# Altium schematic symbol library OpAmp比较器.SchLib: 515 symbols (part 2 of 4)
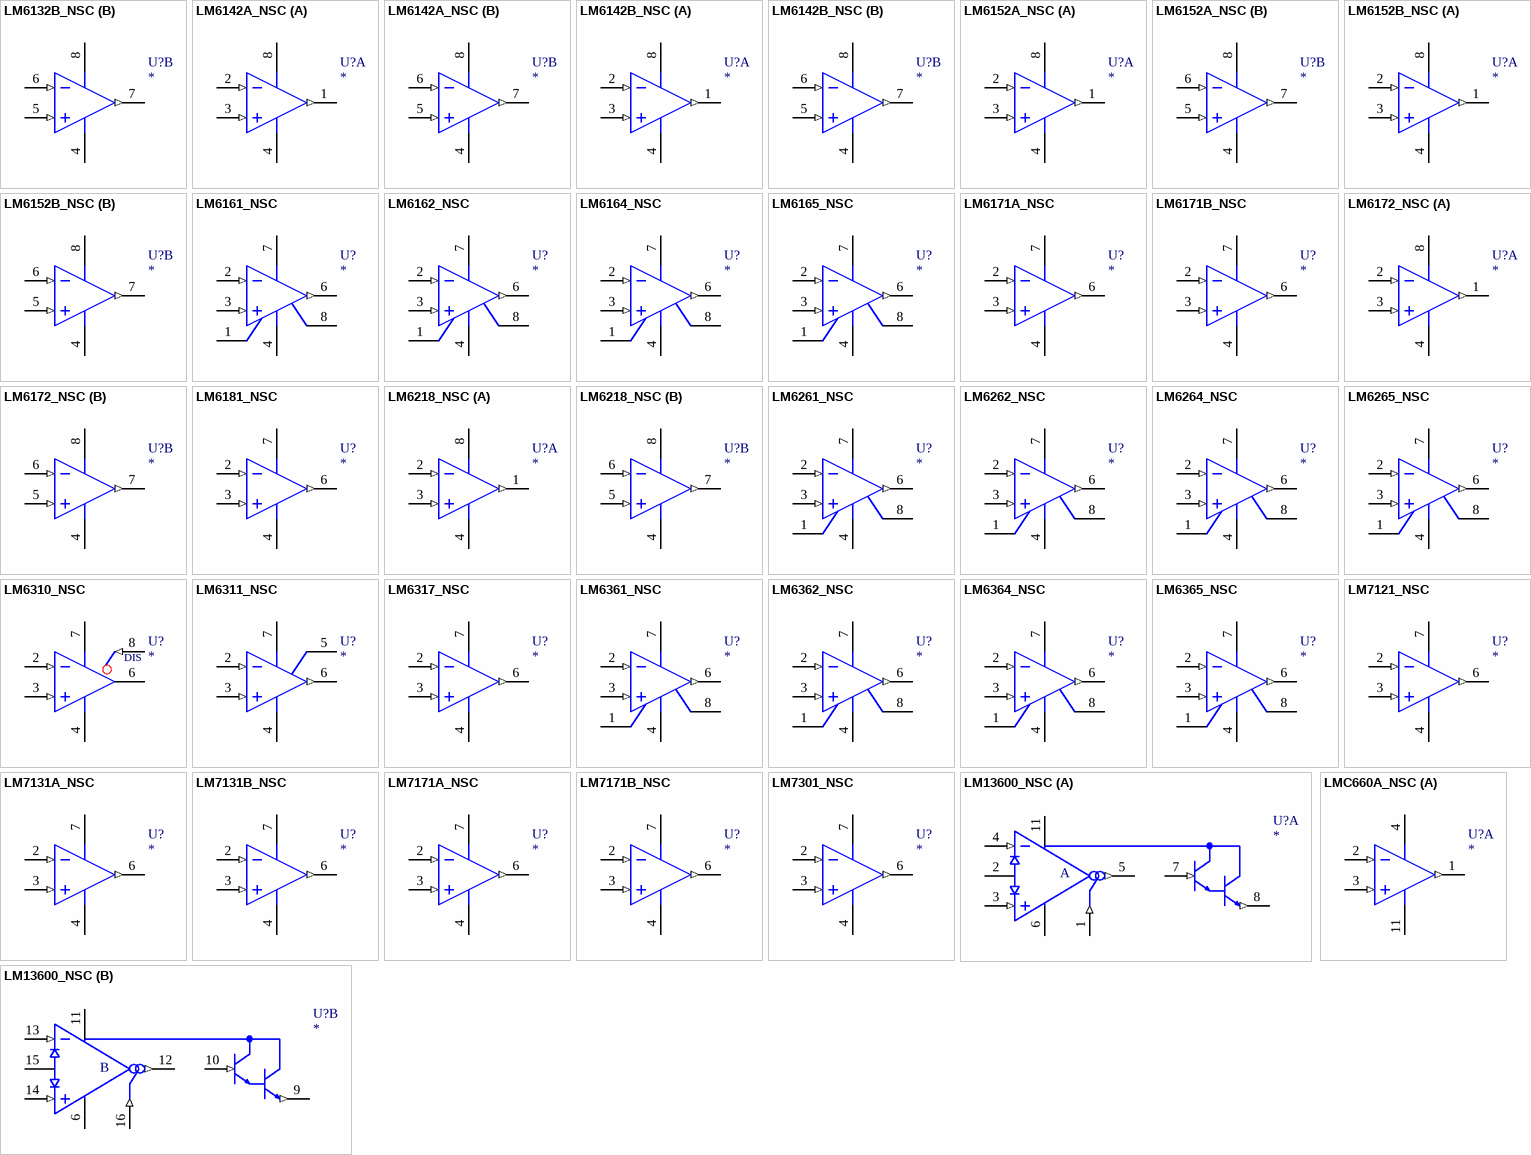
[diagram p24: symbols LM6132B_NSC to LMC660A_NSC]

## LM6142B_NSC
designator U?
Fast Settling Dual Operational Amplifier; 封装库来自淘宝卖家ID：黄晶宝石: 唯一出售店铺网址https://shop463601444.taobao.com
footprint DIP-8
simulation model LM6142B_NSC (SUBCKT)
part A pins: 1 OUT1 (out), 2 IN1- (in), 3 IN1+ (in), 4 V- (power), 8 V+ (power)
part B pins: 4 V- (power), 5 IN2+ (in), 6 IN2- (in), 7 OUT2 (out), 8 V+ (power)

## LM6152A_NSC
designator U?
High Speed/Low Power 17 MHz Rail-to-Rail, Input-Output Operational Amplifier; 封装库来自淘宝卖家ID：黄晶宝石: 唯一出售店铺网址https://shop463601444.taobao.com
footprint DIP-8
simulation model LM6152A_NSC (SUBCKT)
part A pins: 1 OUTA (out), 2 IN-A (in), 3 IN+A (in), 4 V- (power), 8 V+ (power)
part B pins: 4 V- (power), 5 IN+B (in), 6 IN-B (in), 7 OUTB (out), 8 V+ (power)

## LM6152B_NSC
designator U?
High Speed/Low Power 17 MHz Rail-to-Rail, Input-Output Operational Amplifier; 封装库来自淘宝卖家ID：黄晶宝石: 唯一出售店铺网址https://shop463601444.taobao.com
footprint DIP-8
simulation model LM6152B_NSC (SUBCKT)
part A pins: 1 OUTA (out), 2 IN-A (in), 3 IN+A (in), 4 V- (power), 8 V+ (power)
part B pins: 4 V- (power), 5 IN+B (in), 6 IN-B (in), 7 OUTB (out), 8 V+ (power)

## LM6161_NSC
designator U?
High Speed Operational Amplifier; Text Field6: Pin 5 is N.C.; 封装库来自淘宝卖家ID：黄晶宝石: 唯一出售店铺网址https://shop463601444.taobao.com
footprint DIP-8
simulation model LM6161_NSC (SUBCKT)
pins: 1 NULL IN, 2 IN- (in), 3 IN+ (in), 4 VS- (power), 6 OUT (out), 7 VS+ (power), 8 NULL IN

## LM6162_NSC
designator U?
High Speed Operational Amplifier; Text Field6: Pin 5 is N.C.; 封装库来自淘宝卖家ID：黄晶宝石: 唯一出售店铺网址https://shop463601444.taobao.com
footprint DIP-8
simulation model LM6162_NSC (SUBCKT)
pins: 1 VOS TRIM, 2 IN- (in), 3 IN+ (in), 4 VS- (power), 6 OUT (out), 7 VS+ (power), 8 VOS TRIM

## LM6164_NSC
designator U?
High Speed Operational Amplifier; Text Field6: Pin 5 is N.C.; 封装库来自淘宝卖家ID：黄晶宝石: 唯一出售店铺网址https://shop463601444.taobao.com
footprint DIP-8
simulation model LM6164_NSC (SUBCKT)
pins: 1 BAL, 2 IN- (in), 3 IN+ (in), 4 VS- (power), 6 OUT (out), 7 VS+ (power), 8 BAL

## LM6165_NSC
designator U?
High Speed Operational Amplifier; Text Field6: Pin 5 is N.C.; 封装库来自淘宝卖家ID：黄晶宝石: 唯一出售店铺网址https://shop463601444.taobao.com
footprint DIP-8
simulation model LM6165_NSC (SUBCKT)
pins: 1 VOS ADJ, 2 IN- (in), 3 IN+ (in), 4 V- (power), 6 VOUT (out), 7 V+ (power), 8 VOS ADJ

## LM6171A_NSC
designator U?
Precision CMOS Single Micropower Operational Amplifier; Text Field6: Pins 1, 5 and 8 are N.C.; 封装库来自淘宝卖家ID：黄晶宝石: 唯一出售店铺网址https://shop463601444.taobao.com
footprint DIP-8
simulation model LM6171A_NSC (SUBCKT)
pins: 2 IN- (in), 3 IN+ (in), 4 -VS (power), 6 OUT (out), 7 +VS (power)

## LM6171B_NSC
designator U?
Precision CMOS Single Micropower Operational Amplifier; Text Field6: Pins 1, 5 and 8 are N.C.; 封装库来自淘宝卖家ID：黄晶宝石: 唯一出售店铺网址https://shop463601444.taobao.com
footprint DIP-8
simulation model LM6171B_NSC (SUBCKT)
pins: 2 IN- (in), 3 IN+ (in), 4 -VS (power), 6 OUT (out), 7 +VS (power)

## LM6172_NSC
designator U?
High Speed/Low Power 17 MHz Rail-to-Rail, Input-Output Operational Amplifier; 封装库来自淘宝卖家ID：黄晶宝石: 唯一出售店铺网址https://shop463601444.taobao.com
footprint DIP-8
simulation model LM6172_NSC (SUBCKT)
part A pins: 1 OUTA (out), 2 IN-A (in), 3 IN+A (in), 4 V- (power), 8 V+ (power)
part B pins: 4 V- (power), 5 IN+B (in), 6 IN-B (in), 7 OUTB (out), 8 V+ (power)

## LM6181_NSC
designator U?
Operational Amplifier; Text Field6: Pins 1, 5 and 8 are N.C.; 封装库来自淘宝卖家ID：黄晶宝石: 唯一出售店铺网址https://shop463601444.taobao.com
footprint DIP-8
simulation model LM6181_NSC (SUBCKT)
pins: 2 IN- (in), 3 IN+ (in), 4 V- (power), 6 OUT (out), 7 V+ (power)

## LM6218_NSC
designator U?
Fast Settling Dual Operational Amplifier; 封装库来自淘宝卖家ID：黄晶宝石: 唯一出售店铺网址https://shop463601444.taobao.com
footprint DIP-8
simulation model LM6218_NSC (SUBCKT)
part A pins: 1 OUT1 (out), 2 IN1- (in), 3 IN1+ (in), 4 V- (power), 8 V+ (power)
part B pins: 4 V- (power), 5 IN2+ (in), 6 IN2- (in), 7 OUT2 (out), 8 V+ (power)

## LM6261_NSC
designator U?
High Speed Operational Amplifier; Text Field6: Pin 5 is N.C.; 封装库来自淘宝卖家ID：黄晶宝石: 唯一出售店铺网址https://shop463601444.taobao.com
footprint DIP-8
simulation model LM6261_NSC (SUBCKT)
pins: 1 NULL IN, 2 IN- (in), 3 IN+ (in), 4 VS- (power), 6 OUT (out), 7 VS+ (power), 8 NULL IN

## LM6262_NSC
designator U?
High Speed Operational Amplifier; Text Field6: Pin 5 is N.C.; 封装库来自淘宝卖家ID：黄晶宝石: 唯一出售店铺网址https://shop463601444.taobao.com
footprint DIP-8
simulation model LM6262_NSC (SUBCKT)
pins: 1 VOS TRIM, 2 IN- (in), 3 IN+ (in), 4 VS- (power), 6 OUT (out), 7 VS+ (power), 8 VOS TRIM

## LM6264_NSC
designator U?
High Speed Operational Amplifier; Text Field6: Pin 5 is N.C.; 封装库来自淘宝卖家ID：黄晶宝石: 唯一出售店铺网址https://shop463601444.taobao.com
footprint DIP-8
simulation model LM6264_NSC (SUBCKT)
pins: 1 BAL, 2 IN- (in), 3 IN+ (in), 4 VS- (power), 6 OUT (out), 7 VS+ (power), 8 BAL

## LM6265_NSC
designator U?
High Speed Operational Amplifier; Text Field6: Pin 5 is N.C.; 封装库来自淘宝卖家ID：黄晶宝石: 唯一出售店铺网址https://shop463601444.taobao.com
footprint DIP-8
simulation model LM6265_NSC (SUBCKT)
pins: 1 VOS ADJ, 2 IN- (in), 3 IN+ (in), 4 V- (power), 6 VOUT (out), 7 V+ (power), 8 VOS ADJ

## LM6310_NSC
designator U?
High Speed Low Power Operational Amplifier with TRI-STATE Output; Text Field6: Pins 1 and 5 are N.C.; 封装库来自淘宝卖家ID：黄晶宝石: 唯一出售店铺网址https://shop463601444.taobao.com
footprint DIP-8
simulation model LM6310_NSC (SUBCKT)
pins: 2 IN- (in), 3 IN+ (in), 4 VCC- (power), 6 OUT (hiz), 7 VCC+ (power), 8 DISABLE (in)
text: DIS

## LM6311_NSC
designator U?
Low Noise, High Speed, Voltage Feedback Operational Amplifier; Text Field6: Pins 1 and 8 are N.C.; 封装库来自淘宝卖家ID：黄晶宝石: 唯一出售店铺网址https://shop463601444.taobao.com
footprint DIP-8
simulation model LM6311_NSC (SUBCKT)
pins: 2 IN- (in), 3 IN+ (in), 4 V- (power), 5 COMP, 6 OUT (out), 7 V+ (power)

## LM6317_NSC
designator U?
Tiny High Speed Single Supply Operational Amplifier; Text Field6: Pins 1, 5 and 8 are N.C.; 封装库来自淘宝卖家ID：黄晶宝石: 唯一出售店铺网址https://shop463601444.taobao.com
footprint DIP-8
simulation model LM6317_NSC (SUBCKT)
pins: 2 IN- (in), 3 IN+ (in), 4 VCC- (power), 6 OUT (out), 7 VCC+ (power)

## LM6361_NSC
designator U?
High Speed Operational Amplifier; Text Field6: Pin 5 is N.C.; 封装库来自淘宝卖家ID：黄晶宝石: 唯一出售店铺网址https://shop463601444.taobao.com
footprint DIP-8
simulation model LM6361_NSC (SUBCKT)
pins: 1 NULL IN, 2 IN- (in), 3 IN+ (in), 4 VS- (power), 6 OUT (out), 7 VS+ (power), 8 NULL IN

## LM6362_NSC
designator U?
High Speed Operational Amplifier; Text Field6: Pin 5 is N.C.; 封装库来自淘宝卖家ID：黄晶宝石: 唯一出售店铺网址https://shop463601444.taobao.com
footprint DIP-8
simulation model LM6362_NSC (SUBCKT)
pins: 1 VOS TRIM, 2 IN- (in), 3 IN+ (in), 4 VS- (power), 6 OUT (out), 7 VS+ (power), 8 VOS TRIM

## LM6364_NSC
designator U?
High Speed Operational Amplifier; Text Field6: Pin 5 is N.C.; 封装库来自淘宝卖家ID：黄晶宝石: 唯一出售店铺网址https://shop463601444.taobao.com
footprint DIP-8
simulation model LM6364_NSC (SUBCKT)
pins: 1 BAL, 2 IN- (in), 3 IN+ (in), 4 VS- (power), 6 OUT (out), 7 VS+ (power), 8 BAL

## LM6365_NSC
designator U?
High Speed Operational Amplifier; Text Field6: Pin 5 is N.C.; 封装库来自淘宝卖家ID：黄晶宝石: 唯一出售店铺网址https://shop463601444.taobao.com
footprint DIP-8
simulation model LM6365_NSC (SUBCKT)
pins: 1 VOS ADJ, 2 IN- (in), 3 IN+ (in), 4 V- (power), 6 VOUT (out), 7 V+ (power), 8 VOS ADJ

## LM7121_NSC
designator U?
Tiny High Speed Single Supply Operational Amplifier; Text Field6: Pins 1, 5 and 8 are N.C.; 封装库来自淘宝卖家ID：黄晶宝石: 唯一出售店铺网址https://shop463601444.taobao.com
footprint DIP-8
simulation model LM7121_NSC (SUBCKT)
pins: 2 IN- (in), 3 IN+ (in), 4 VCC- (power), 6 OUT (out), 7 VCC+ (power)

## LM7131A_NSC
designator U?
Tiny High Speed Single Supply Operational Amplifier; Text Field6: Pins 1, 5 and 8 are N.C.; 封装库来自淘宝卖家ID：黄晶宝石: 唯一出售店铺网址https://shop463601444.taobao.com
footprint DIP-8
simulation model LM7131A_NSC (SUBCKT)
pins: 2 IN- (in), 3 IN+ (in), 4 VCC- (power), 6 OUT (out), 7 VCC+ (power)

## LM7131B_NSC
designator U?
Tiny High Speed Single Supply Operational Amplifier; Text Field6: Pins 1, 5 and 8 are N.C.; 封装库来自淘宝卖家ID：黄晶宝石: 唯一出售店铺网址https://shop463601444.taobao.com
footprint DIP-8
simulation model LM7131B_NSC (SUBCKT)
pins: 2 IN- (in), 3 IN+ (in), 4 VCC- (power), 6 OUT (out), 7 VCC+ (power)

## LM7171A_NSC
designator U?
Precision CMOS Single Micropower Operational Amplifier; Text Field6: Pins 1, 5 and 8 are N.C.; 封装库来自淘宝卖家ID：黄晶宝石: 唯一出售店铺网址https://shop463601444.taobao.com
footprint DIP-8
simulation model LM7171A_NSC (SUBCKT)
pins: 2 IN- (in), 3 IN+ (in), 4 -VS (power), 6 OUT (out), 7 +VS (power)

## LM7171B_NSC
designator U?
Precision CMOS Single Micropower Operational Amplifier; Text Field6: Pins 1, 5 and 8 are N.C.; 封装库来自淘宝卖家ID：黄晶宝石: 唯一出售店铺网址https://shop463601444.taobao.com
footprint DIP-8
simulation model LM7171B_NSC (SUBCKT)
pins: 2 IN- (in), 3 IN+ (in), 4 -VS (power), 6 OUT (out), 7 +VS (power)

## LM7301_NSC
designator U?
Low Power, 4 MHz GBW, Rail-to-Rail Input-Output Operational Amplifier; Text Field6: Pins 1, 5 and 8 are not connected; 封装库来自淘宝卖家ID：黄晶宝石: 唯一出售店铺网址https://shop463601444.taobao.com
simulation model LM7301_NSC (SUBCKT)
pins: 2 IN- (in), 3 IN+ (in), 4 VEE (power), 6 OUT (out), 7 VCC (power)

## LM13600_NSC
designator U?
Dual Operational Transconductance Amplifier with Linearizing Diodes and Buffers; 封装库来自淘宝卖家ID：黄晶宝石: 唯一出售店铺网址https://shop463601444.taobao.com
footprint DIP-16
simulation model LM13600_NSC (SUBCKT)
part A pins: 1 BIAS INA (in), 2 DIOD BIASA, 3 IN+A (in), 4 IN-A (in), 5 OUTA (out), 6 V- (power), 7 BUFF INA (in), 8 BUFF OUTA (out), 11 V+ (power)
part B pins: 6 V- (power), 9 BUFF OUTB (out), 10 BUFF INB (in), 11 V+ (power), 12 OUTB (out), 13 IN-B (in), 14 IN+B (in), 15 DIOD BIASB, 16 BIAS INB (in)
part A text: A
part B text: B

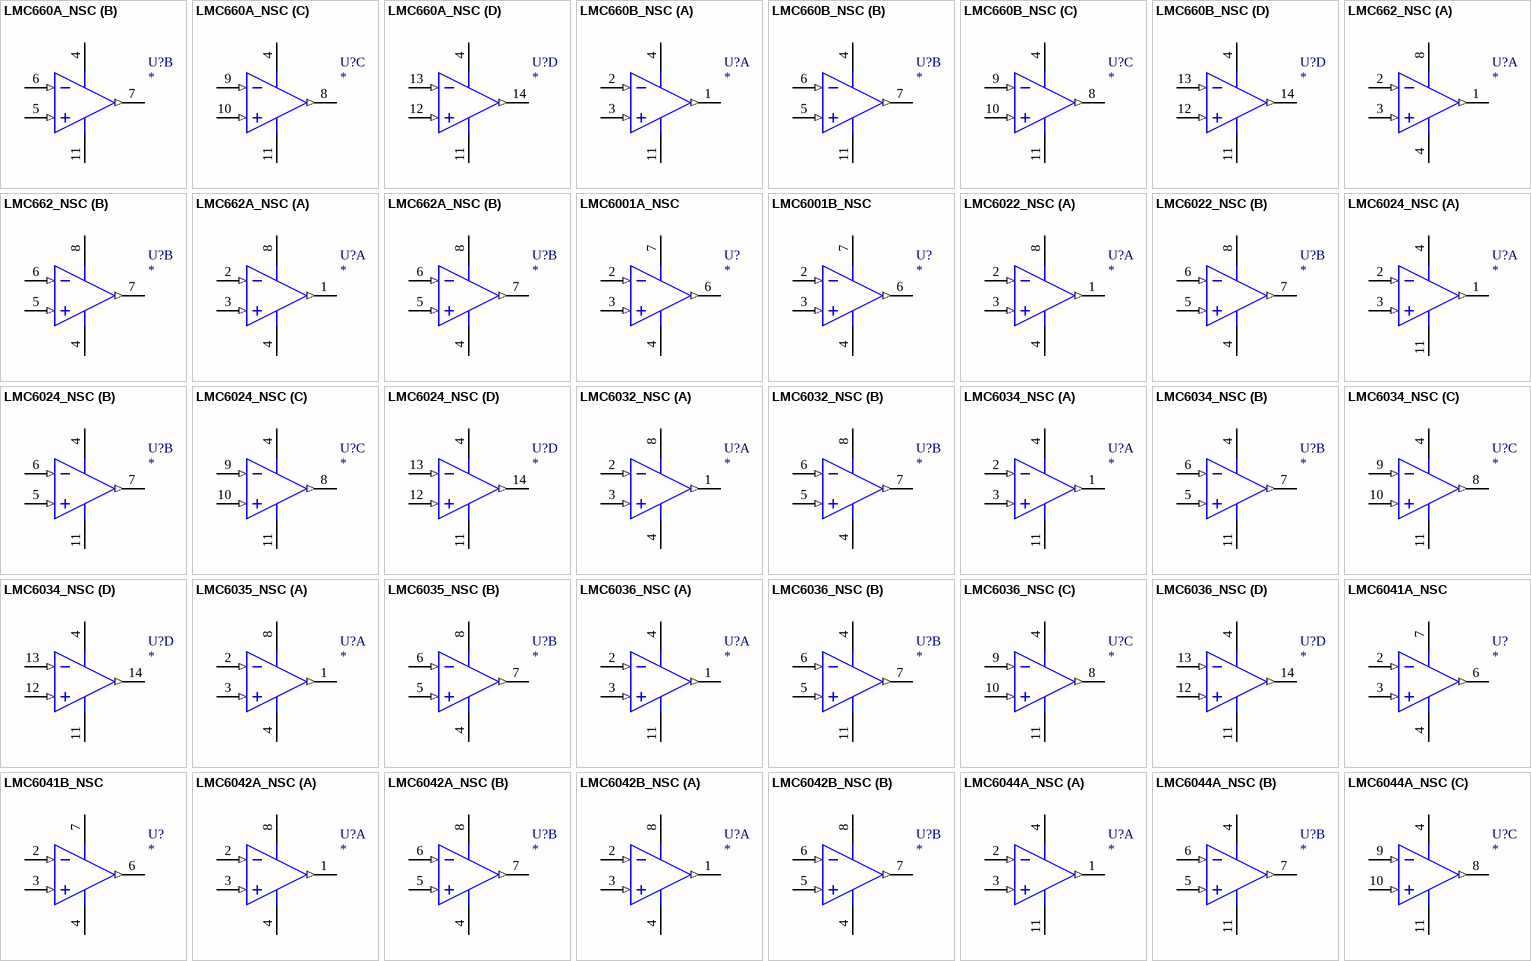
[diagram p7: symbols LMC660A_NSC to LMC6044A_NSC]

## LMC660A_NSC
designator U?
Low Power Quad Operational Amplifier; 封装库来自淘宝卖家ID：黄晶宝石: 唯一出售店铺网址https://shop463601444.taobao.com
footprint DIP-14
simulation model LMC660A_NSC (SUBCKT)
part A pins: 1 1 OUT (out), 2 1 IN- (in), 3 1 IN+ (in), 4 VCC (power), 11 VEE (power)
part B pins: 4 VCC (power), 5 2 IN+ (in), 6 2 IN- (in), 7 2 OUT (out), 11 VEE (power)
part C pins: 4 VCC (power), 8 3 OUT (out), 9 3 IN- (in), 10 3 IN+ (in), 11 VEE (power)
part D pins: 4 VCC (power), 11 VEE (power), 12 4 IN+ (in), 13 4 IN- (in), 14 4 OUT (out)

## LMC660B_NSC
designator U?
Low Power Quad Operational Amplifier; 封装库来自淘宝卖家ID：黄晶宝石: 唯一出售店铺网址https://shop463601444.taobao.com
footprint DIP-14
simulation model LMC660B_NSC (SUBCKT)
part A pins: 1 1 OUT (out), 2 1 IN- (in), 3 1 IN+ (in), 4 VCC (power), 11 VEE (power)
part B pins: 4 VCC (power), 5 2 IN+ (in), 6 2 IN- (in), 7 2 OUT (out), 11 VEE (power)
part C pins: 4 VCC (power), 8 3 OUT (out), 9 3 IN- (in), 10 3 IN+ (in), 11 VEE (power)
part D pins: 4 VCC (power), 11 VEE (power), 12 4 IN+ (in), 13 4 IN- (in), 14 4 OUT (out)

## LMC662_NSC
designator U?
Fast Settling Dual Operational Amplifier; 封装库来自淘宝卖家ID：黄晶宝石: 唯一出售店铺网址https://shop463601444.taobao.com
footprint DIP-8
simulation model LMC662_NSC (SUBCKT)
part A pins: 1 OUT1 (out), 2 IN1- (in), 3 IN1+ (in), 4 V- (power), 8 V+ (power)
part B pins: 4 V- (power), 5 IN2+ (in), 6 IN2- (in), 7 OUT2 (out), 8 V+ (power)

## LMC662A_NSC
designator U?
Fast Settling Dual Operational Amplifier; 封装库来自淘宝卖家ID：黄晶宝石: 唯一出售店铺网址https://shop463601444.taobao.com
footprint DIP-8
simulation model LMC662A_NSC (SUBCKT)
part A pins: 1 OUT1 (out), 2 IN1- (in), 3 IN1+ (in), 4 V- (power), 8 V+ (power)
part B pins: 4 V- (power), 5 IN2+ (in), 6 IN2- (in), 7 OUT2 (out), 8 V+ (power)

## LMC6001A_NSC
designator U?
Precision CMOS Single Micropower Operational Amplifier; Text Field6: Pins 1, 5 and 8 are N.C.; 封装库来自淘宝卖家ID：黄晶宝石: 唯一出售店铺网址https://shop463601444.taobao.com
footprint DIP-8
simulation model LMC6001A_NSC (SUBCKT)
pins: 2 IN- (in), 3 IN+ (in), 4 -VS (power), 6 OUT (out), 7 +VS (power)

## LMC6001B_NSC
designator U?
Precision CMOS Single Micropower Operational Amplifier; Text Field6: Pins 1, 5 and 8 are N.C.; 封装库来自淘宝卖家ID：黄晶宝石: 唯一出售店铺网址https://shop463601444.taobao.com
footprint DIP-8
simulation model LMC6001B_NSC (SUBCKT)
pins: 2 IN- (in), 3 IN+ (in), 4 -VS (power), 6 OUT (out), 7 +VS (power)

## LMC6022_NSC
designator U?
Fast Settling Dual Operational Amplifier; 封装库来自淘宝卖家ID：黄晶宝石: 唯一出售店铺网址https://shop463601444.taobao.com
footprint DIP-8
simulation model LMC6022_NSC (SUBCKT)
part A pins: 1 OUT1 (out), 2 IN1- (in), 3 IN1+ (in), 4 V- (power), 8 V+ (power)
part B pins: 4 V- (power), 5 IN2+ (in), 6 IN2- (in), 7 OUT2 (out), 8 V+ (power)

## LMC6024_NSC
designator U?
Low Power Quad Operational Amplifier; 封装库来自淘宝卖家ID：黄晶宝石: 唯一出售店铺网址https://shop463601444.taobao.com
footprint DIP-14
simulation model LMC6024_NSC (SUBCKT)
part A pins: 1 1 OUT (out), 2 1 IN- (in), 3 1 IN+ (in), 4 VCC (power), 11 VEE (power)
part B pins: 4 VCC (power), 5 2 IN+ (in), 6 2 IN- (in), 7 2 OUT (out), 11 VEE (power)
part C pins: 4 VCC (power), 8 3 OUT (out), 9 3 IN- (in), 10 3 IN+ (in), 11 VEE (power)
part D pins: 4 VCC (power), 11 VEE (power), 12 4 IN+ (in), 13 4 IN- (in), 14 4 OUT (out)

## LMC6032_NSC
designator U?
CMOS Dual Rail-to-Rail Input & Output Operational Amplifier; 封装库来自淘宝卖家ID：黄晶宝石: 唯一出售店铺网址https://shop463601444.taobao.com
footprint DIP-8
simulation model LMC6032_NSC (SUBCKT)
part A pins: 1 OUT1 (out), 2 IN-1 (in), 3 IN+1 (in), 4 GND (power), 8 VDD (power)
part B pins: 4 GND (power), 5 IN+2 (in), 6 IN-2 (in), 7 OUT2 (out), 8 VDD (power)

## LMC6034_NSC
designator U?
Low Power Quad Operational Amplifier; 封装库来自淘宝卖家ID：黄晶宝石: 唯一出售店铺网址https://shop463601444.taobao.com
footprint DIP-14
simulation model LMC6034_NSC (SUBCKT)
part A pins: 1 1 OUT (out), 2 1 IN- (in), 3 1 IN+ (in), 4 VCC (power), 11 VEE (power)
part B pins: 4 VCC (power), 5 2 IN+ (in), 6 2 IN- (in), 7 2 OUT (out), 11 VEE (power)
part C pins: 4 VCC (power), 8 3 OUT (out), 9 3 IN- (in), 10 3 IN+ (in), 11 VEE (power)
part D pins: 4 VCC (power), 11 VEE (power), 12 4 IN+ (in), 13 4 IN- (in), 14 4 OUT (out)

## LMC6035_NSC
designator U?
Dual Low Power 2.7V Single Supply CMOS Operational Amplifier; 封装库来自淘宝卖家ID：黄晶宝石: 唯一出售店铺网址https://shop463601444.taobao.com
simulation model LMC6035_NSC (SUBCKT)
part A pins: 1 OUT (out), 2 IN- (in), 3 IN+ (in), 4 VEE (power), 8 VCC (power)
part B pins: 4 VEE (power), 5 IN+ (in), 6 IN- (in), 7 OUT (out), 8 VCC (power)

## LMC6036_NSC
designator U?
Quad Low Power 2.7V Single Supply CMOS Operational Amplifier; 封装库来自淘宝卖家ID：黄晶宝石: 唯一出售店铺网址https://shop463601444.taobao.com
simulation model LMC6036_NSC (SUBCKT)
part A pins: 1 OUT (out), 2 IN- (in), 3 IN+ (in), 4 VCC (power), 11 VEE (power)
part B pins: 4 VCC (power), 5 IN+ (in), 6 IN- (in), 7 OUT (out), 11 VEE (power)
part C pins: 4 VCC (power), 8 OUT (out), 9 IN- (in), 10 IN+ (in), 11 VEE (power)
part D pins: 4 VCC (power), 11 VEE (power), 12 IN+ (in), 13 IN- (in), 14 OUT (out)

## LMC6041A_NSC
designator U?
Low Power Operational Amplifier with Rail-to-Rail Input & Output; Text Field6: Pins 1, 5 and 8 are N.C.; 封装库来自淘宝卖家ID：黄晶宝石: 唯一出售店铺网址https://shop463601444.taobao.com
footprint DIP-8
simulation model LMC6041A_NSC (SUBCKT)
pins: 2 IN- (in), 3 IN+ (in), 4 VSS- (power), 6 OUT (out), 7 VSS+ (power)

## LMC6041B_NSC
designator U?
Low Power Operational Amplifier with Rail-to-Rail Input & Output; Text Field6: Pins 1, 5 and 8 are N.C.; 封装库来自淘宝卖家ID：黄晶宝石: 唯一出售店铺网址https://shop463601444.taobao.com
footprint DIP-8
simulation model LMC6041B_NSC (SUBCKT)
pins: 2 IN- (in), 3 IN+ (in), 4 VSS- (power), 6 OUT (out), 7 VSS+ (power)

## LMC6042A_NSC
designator U?
Fast Settling Dual Operational Amplifier; 封装库来自淘宝卖家ID：黄晶宝石: 唯一出售店铺网址https://shop463601444.taobao.com
footprint DIP-8
simulation model LMC6042A_NSC (SUBCKT)
part A pins: 1 OUT1 (out), 2 IN1- (in), 3 IN1+ (in), 4 V- (power), 8 V+ (power)
part B pins: 4 V- (power), 5 IN2+ (in), 6 IN2- (in), 7 OUT2 (out), 8 V+ (power)

## LMC6042B_NSC
designator U?
Fast Settling Dual Operational Amplifier; 封装库来自淘宝卖家ID：黄晶宝石: 唯一出售店铺网址https://shop463601444.taobao.com
footprint DIP-8
simulation model LMC6042B_NSC (SUBCKT)
part A pins: 1 OUT1 (out), 2 IN1- (in), 3 IN1+ (in), 4 V- (power), 8 V+ (power)
part B pins: 4 V- (power), 5 IN2+ (in), 6 IN2- (in), 7 OUT2 (out), 8 V+ (power)

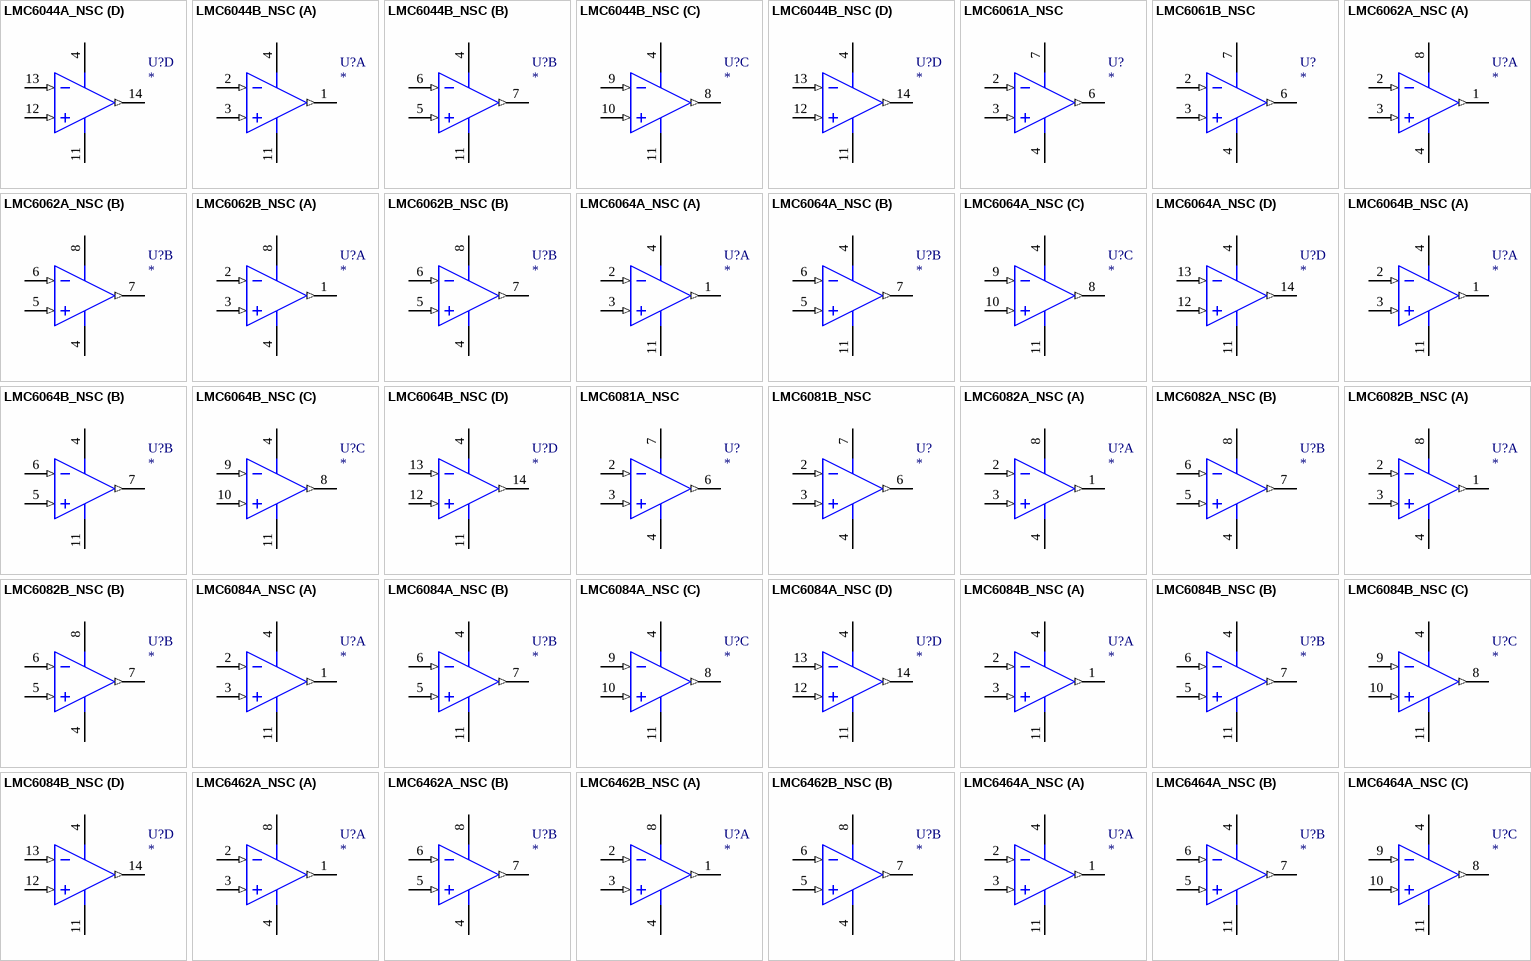
[diagram p8: symbols LMC6044A_NSC to LMC6464A_NSC]

## LMC6044A_NSC
designator U?
Low Power Quad Operational Amplifier; 封装库来自淘宝卖家ID：黄晶宝石: 唯一出售店铺网址https://shop463601444.taobao.com
footprint DIP-14
simulation model LMC6044A_NSC (SUBCKT)
part A pins: 1 1 OUT (out), 2 1 IN- (in), 3 1 IN+ (in), 4 VCC (power), 11 VEE (power)
part B pins: 4 VCC (power), 5 2 IN+ (in), 6 2 IN- (in), 7 2 OUT (out), 11 VEE (power)
part C pins: 4 VCC (power), 8 3 OUT (out), 9 3 IN- (in), 10 3 IN+ (in), 11 VEE (power)
part D pins: 4 VCC (power), 11 VEE (power), 12 4 IN+ (in), 13 4 IN- (in), 14 4 OUT (out)

## LMC6044B_NSC
designator U?
Low Power Quad Operational Amplifier; 封装库来自淘宝卖家ID：黄晶宝石: 唯一出售店铺网址https://shop463601444.taobao.com
footprint DIP-14
simulation model LMC6044B_NSC (SUBCKT)
part A pins: 1 1 OUT (out), 2 1 IN- (in), 3 1 IN+ (in), 4 VCC (power), 11 VEE (power)
part B pins: 4 VCC (power), 5 2 IN+ (in), 6 2 IN- (in), 7 2 OUT (out), 11 VEE (power)
part C pins: 4 VCC (power), 8 3 OUT (out), 9 3 IN- (in), 10 3 IN+ (in), 11 VEE (power)
part D pins: 4 VCC (power), 11 VEE (power), 12 4 IN+ (in), 13 4 IN- (in), 14 4 OUT (out)

## LMC6061A_NSC
designator U?
Precision CMOS Single Micropower Operational Amplifier; Text Field6: Pins 1, 5 and 8 are N.C.; 封装库来自淘宝卖家ID：黄晶宝石: 唯一出售店铺网址https://shop463601444.taobao.com
footprint DIP-8
simulation model LMC6061A_NSC (SUBCKT)
pins: 2 IN- (in), 3 IN+ (in), 4 -VS (power), 6 OUT (out), 7 +VS (power)

## LMC6061B_NSC
designator U?
Precision CMOS Single Micropower Operational Amplifier; Text Field6: Pins 1, 5 and 8 are N.C.; 封装库来自淘宝卖家ID：黄晶宝石: 唯一出售店铺网址https://shop463601444.taobao.com
footprint DIP-8
simulation model LMC6061B_NSC (SUBCKT)
pins: 2 IN- (in), 3 IN+ (in), 4 -VS (power), 6 OUT (out), 7 +VS (power)

## LMC6062A_NSC
designator U?
Fast Settling Dual Operational Amplifier; 封装库来自淘宝卖家ID：黄晶宝石: 唯一出售店铺网址https://shop463601444.taobao.com
footprint DIP-8
simulation model LMC6062A_NSC (SUBCKT)
part A pins: 1 OUT1 (out), 2 IN1- (in), 3 IN1+ (in), 4 V- (power), 8 V+ (power)
part B pins: 4 V- (power), 5 IN2+ (in), 6 IN2- (in), 7 OUT2 (out), 8 V+ (power)

## LMC6062B_NSC
designator U?
Fast Settling Dual Operational Amplifier; 封装库来自淘宝卖家ID：黄晶宝石: 唯一出售店铺网址https://shop463601444.taobao.com
footprint DIP-8
simulation model LMC6062B_NSC (SUBCKT)
part A pins: 1 OUT1 (out), 2 IN1- (in), 3 IN1+ (in), 4 V- (power), 8 V+ (power)
part B pins: 4 V- (power), 5 IN2+ (in), 6 IN2- (in), 7 OUT2 (out), 8 V+ (power)

## LMC6064A_NSC
designator U?
Low Power Quad Operational Amplifier; 封装库来自淘宝卖家ID：黄晶宝石: 唯一出售店铺网址https://shop463601444.taobao.com
footprint DIP-14
simulation model LMC6064A_NSC (SUBCKT)
part A pins: 1 1 OUT (out), 2 1 IN- (in), 3 1 IN+ (in), 4 VCC (power), 11 VEE (power)
part B pins: 4 VCC (power), 5 2 IN+ (in), 6 2 IN- (in), 7 2 OUT (out), 11 VEE (power)
part C pins: 4 VCC (power), 8 3 OUT (out), 9 3 IN- (in), 10 3 IN+ (in), 11 VEE (power)
part D pins: 4 VCC (power), 11 VEE (power), 12 4 IN+ (in), 13 4 IN- (in), 14 4 OUT (out)

## LMC6064B_NSC
designator U?
Low Power Quad Operational Amplifier; 封装库来自淘宝卖家ID：黄晶宝石: 唯一出售店铺网址https://shop463601444.taobao.com
footprint DIP-14
simulation model LMC6064B_NSC (SUBCKT)
part A pins: 1 1 OUT (out), 2 1 IN- (in), 3 1 IN+ (in), 4 VCC (power), 11 VEE (power)
part B pins: 4 VCC (power), 5 2 IN+ (in), 6 2 IN- (in), 7 2 OUT (out), 11 VEE (power)
part C pins: 4 VCC (power), 8 3 OUT (out), 9 3 IN- (in), 10 3 IN+ (in), 11 VEE (power)
part D pins: 4 VCC (power), 11 VEE (power), 12 4 IN+ (in), 13 4 IN- (in), 14 4 OUT (out)

## LMC6081A_NSC
designator U?
Precision CMOS Single Micropower Operational Amplifier; Text Field6: Pins 1, 5 and 8 are N.C.; 封装库来自淘宝卖家ID：黄晶宝石: 唯一出售店铺网址https://shop463601444.taobao.com
footprint DIP-8
simulation model LMC6081A_NSC (SUBCKT)
pins: 2 IN- (in), 3 IN+ (in), 4 -VS (power), 6 OUT (out), 7 +VS (power)

## LMC6081B_NSC
designator U?
Precision CMOS Single Micropower Operational Amplifier; Text Field6: Pins 1, 5 and 8 are N.C.; 封装库来自淘宝卖家ID：黄晶宝石: 唯一出售店铺网址https://shop463601444.taobao.com
footprint DIP-8
simulation model LMC6081B_NSC (SUBCKT)
pins: 2 IN- (in), 3 IN+ (in), 4 -VS (power), 6 OUT (out), 7 +VS (power)

## LMC6082A_NSC
designator U?
CMOS Dual Rail-to-Rail Input & Output Operational Amplifier; 封装库来自淘宝卖家ID：黄晶宝石: 唯一出售店铺网址https://shop463601444.taobao.com
footprint DIP-8
simulation model LMC6082A_NSC (SUBCKT)
part A pins: 1 OUT1 (out), 2 IN-1 (in), 3 IN+1 (in), 4 GND (power), 8 VDD (power)
part B pins: 4 GND (power), 5 IN+2 (in), 6 IN-2 (in), 7 OUT2 (out), 8 VDD (power)

## LMC6082B_NSC
designator U?
CMOS Dual Rail-to-Rail Input & Output Operational Amplifier; 封装库来自淘宝卖家ID：黄晶宝石: 唯一出售店铺网址https://shop463601444.taobao.com
footprint DIP-8
simulation model LMC6082B_NSC (SUBCKT)
part A pins: 1 OUT1 (out), 2 IN-1 (in), 3 IN+1 (in), 4 GND (power), 8 VDD (power)
part B pins: 4 GND (power), 5 IN+2 (in), 6 IN-2 (in), 7 OUT2 (out), 8 VDD (power)

## LMC6084A_NSC
designator U?
Low Power Quad Operational Amplifier; 封装库来自淘宝卖家ID：黄晶宝石: 唯一出售店铺网址https://shop463601444.taobao.com
footprint DIP-14
simulation model LMC6084A_NSC (SUBCKT)
part A pins: 1 1 OUT (out), 2 1 IN- (in), 3 1 IN+ (in), 4 VCC (power), 11 VEE (power)
part B pins: 4 VCC (power), 5 2 IN+ (in), 6 2 IN- (in), 7 2 OUT (out), 11 VEE (power)
part C pins: 4 VCC (power), 8 3 OUT (out), 9 3 IN- (in), 10 3 IN+ (in), 11 VEE (power)
part D pins: 4 VCC (power), 11 VEE (power), 12 4 IN+ (in), 13 4 IN- (in), 14 4 OUT (out)

## LMC6084B_NSC
designator U?
Low Power Quad Operational Amplifier; 封装库来自淘宝卖家ID：黄晶宝石: 唯一出售店铺网址https://shop463601444.taobao.com
footprint DIP-14
simulation model LMC6084B_NSC (SUBCKT)
part A pins: 1 1 OUT (out), 2 1 IN- (in), 3 1 IN+ (in), 4 VCC (power), 11 VEE (power)
part B pins: 4 VCC (power), 5 2 IN+ (in), 6 2 IN- (in), 7 2 OUT (out), 11 VEE (power)
part C pins: 4 VCC (power), 8 3 OUT (out), 9 3 IN- (in), 10 3 IN+ (in), 11 VEE (power)
part D pins: 4 VCC (power), 11 VEE (power), 12 4 IN+ (in), 13 4 IN- (in), 14 4 OUT (out)

## LMC6462A_NSC
designator U?
Fast Settling Dual Operational Amplifier; 封装库来自淘宝卖家ID：黄晶宝石: 唯一出售店铺网址https://shop463601444.taobao.com
footprint DIP-8
simulation model LMC6462A_NSC (SUBCKT)
part A pins: 1 OUT1 (out), 2 IN1- (in), 3 IN1+ (in), 4 V- (power), 8 V+ (power)
part B pins: 4 V- (power), 5 IN2+ (in), 6 IN2- (in), 7 OUT2 (out), 8 V+ (power)

## LMC6462B_NSC
designator U?
Fast Settling Dual Operational Amplifier; 封装库来自淘宝卖家ID：黄晶宝石: 唯一出售店铺网址https://shop463601444.taobao.com
footprint DIP-8
simulation model LMC6462B_NSC (SUBCKT)
part A pins: 1 OUT1 (out), 2 IN1- (in), 3 IN1+ (in), 4 V- (power), 8 V+ (power)
part B pins: 4 V- (power), 5 IN2+ (in), 6 IN2- (in), 7 OUT2 (out), 8 V+ (power)

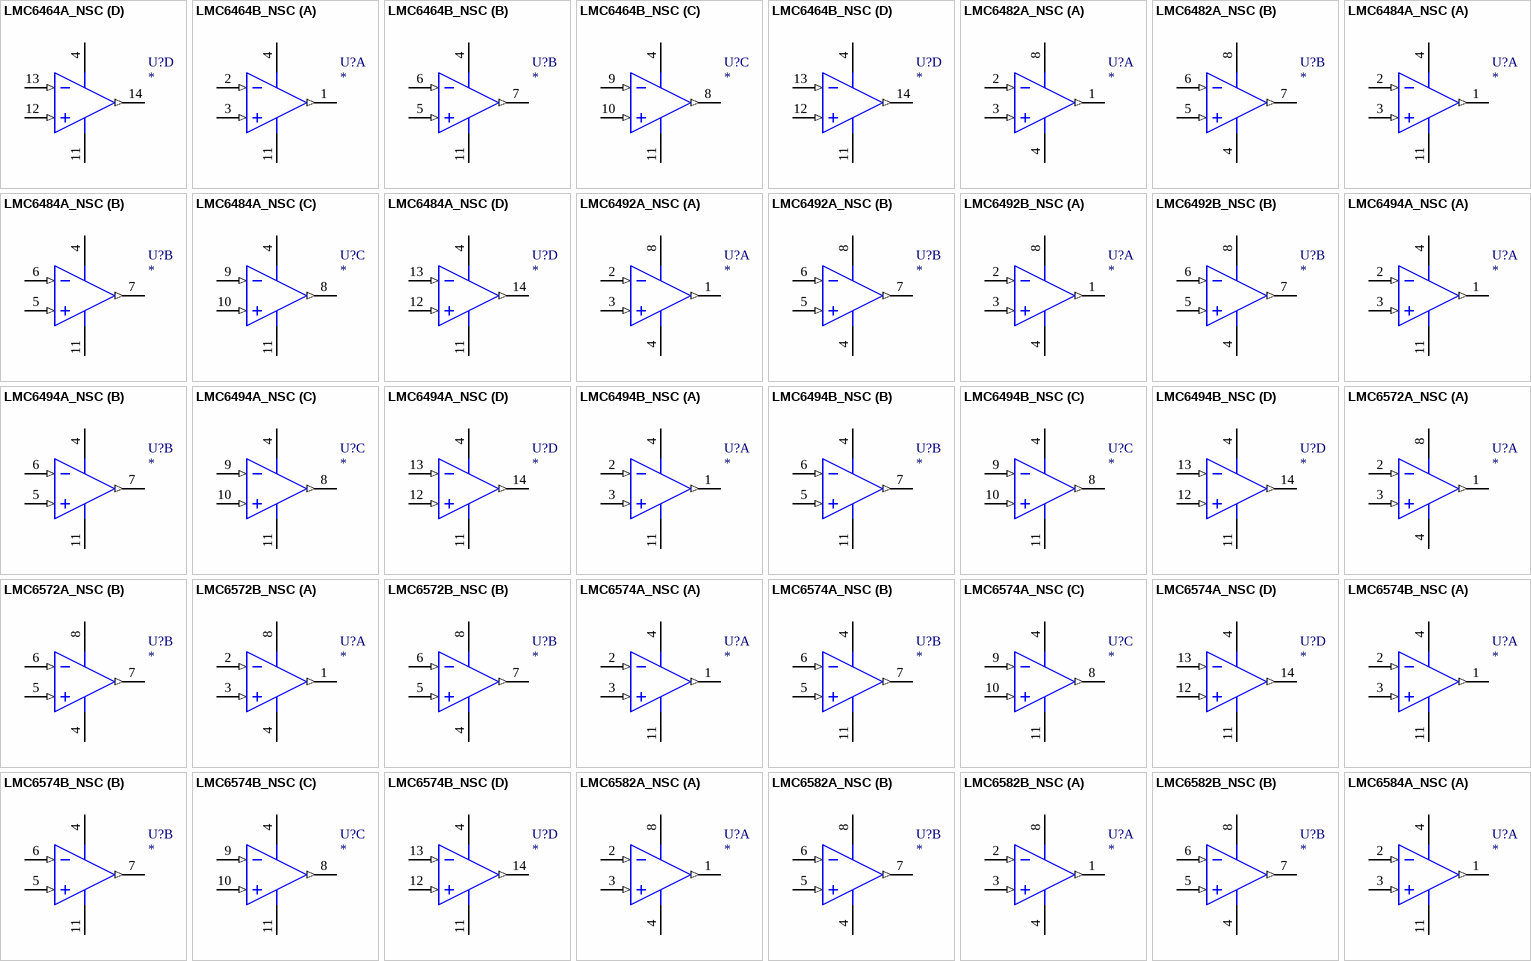
[diagram p9: symbols LMC6464A_NSC to LMC6584A_NSC]

## LMC6464A_NSC
designator U?
Low Power Quad Operational Amplifier; 封装库来自淘宝卖家ID：黄晶宝石: 唯一出售店铺网址https://shop463601444.taobao.com
footprint DIP-14
simulation model LMC6464A_NSC (SUBCKT)
part A pins: 1 1 OUT (out), 2 1 IN- (in), 3 1 IN+ (in), 4 VCC (power), 11 VEE (power)
part B pins: 4 VCC (power), 5 2 IN+ (in), 6 2 IN- (in), 7 2 OUT (out), 11 VEE (power)
part C pins: 4 VCC (power), 8 3 OUT (out), 9 3 IN- (in), 10 3 IN+ (in), 11 VEE (power)
part D pins: 4 VCC (power), 11 VEE (power), 12 4 IN+ (in), 13 4 IN- (in), 14 4 OUT (out)

## LMC6464B_NSC
designator U?
Low Power Quad Operational Amplifier; 封装库来自淘宝卖家ID：黄晶宝石: 唯一出售店铺网址https://shop463601444.taobao.com
footprint DIP-14
simulation model LMC6464B_NSC (SUBCKT)
part A pins: 1 1 OUT (out), 2 1 IN- (in), 3 1 IN+ (in), 4 VCC (power), 11 VEE (power)
part B pins: 4 VCC (power), 5 2 IN+ (in), 6 2 IN- (in), 7 2 OUT (out), 11 VEE (power)
part C pins: 4 VCC (power), 8 3 OUT (out), 9 3 IN- (in), 10 3 IN+ (in), 11 VEE (power)
part D pins: 4 VCC (power), 11 VEE (power), 12 4 IN+ (in), 13 4 IN- (in), 14 4 OUT (out)

## LMC6482A_NSC
designator U?
CMOS Dual Rail-to-Rail Input & Output Operational Amplifier; 封装库来自淘宝卖家ID：黄晶宝石: 唯一出售店铺网址https://shop463601444.taobao.com
footprint DIP-8
simulation model LMC6482A_NSC (SUBCKT)
part A pins: 1 OUT1 (out), 2 IN-1 (in), 3 IN+1 (in), 4 GND (power), 8 VDD (power)
part B pins: 4 GND (power), 5 IN+2 (in), 6 IN-2 (in), 7 OUT2 (out), 8 VDD (power)

## LMC6484A_NSC
designator U?
Low Power Quad Operational Amplifier; 封装库来自淘宝卖家ID：黄晶宝石: 唯一出售店铺网址https://shop463601444.taobao.com
footprint DIP-14
simulation model LMC6484A_NSC (SUBCKT)
part A pins: 1 1 OUT (out), 2 1 IN- (in), 3 1 IN+ (in), 4 VCC (power), 11 VEE (power)
part B pins: 4 VCC (power), 5 2 IN+ (in), 6 2 IN- (in), 7 2 OUT (out), 11 VEE (power)
part C pins: 4 VCC (power), 8 3 OUT (out), 9 3 IN- (in), 10 3 IN+ (in), 11 VEE (power)
part D pins: 4 VCC (power), 11 VEE (power), 12 4 IN+ (in), 13 4 IN- (in), 14 4 OUT (out)

## LMC6492A_NSC
designator U?
CMOS Dual Rail-to-Rail Input & Output Operational Amplifier; 封装库来自淘宝卖家ID：黄晶宝石: 唯一出售店铺网址https://shop463601444.taobao.com
footprint DIP-8
simulation model LMC6492A_NSC (SUBCKT)
part A pins: 1 OUT1 (out), 2 IN-1 (in), 3 IN+1 (in), 4 GND (power), 8 VDD (power)
part B pins: 4 GND (power), 5 IN+2 (in), 6 IN-2 (in), 7 OUT2 (out), 8 VDD (power)

## LMC6492B_NSC
designator U?
CMOS Dual Rail-to-Rail Input & Output Operational Amplifier; 封装库来自淘宝卖家ID：黄晶宝石: 唯一出售店铺网址https://shop463601444.taobao.com
footprint DIP-8
simulation model LMC6492B_NSC (SUBCKT)
part A pins: 1 OUT1 (out), 2 IN-1 (in), 3 IN+1 (in), 4 GND (power), 8 VDD (power)
part B pins: 4 GND (power), 5 IN+2 (in), 6 IN-2 (in), 7 OUT2 (out), 8 VDD (power)

## LMC6494A_NSC
designator U?
Low Power Quad Operational Amplifier; 封装库来自淘宝卖家ID：黄晶宝石: 唯一出售店铺网址https://shop463601444.taobao.com
footprint DIP-14
simulation model LMC6494A_NSC (SUBCKT)
part A pins: 1 1 OUT (out), 2 1 IN- (in), 3 1 IN+ (in), 4 VCC (power), 11 VEE (power)
part B pins: 4 VCC (power), 5 2 IN+ (in), 6 2 IN- (in), 7 2 OUT (out), 11 VEE (power)
part C pins: 4 VCC (power), 8 3 OUT (out), 9 3 IN- (in), 10 3 IN+ (in), 11 VEE (power)
part D pins: 4 VCC (power), 11 VEE (power), 12 4 IN+ (in), 13 4 IN- (in), 14 4 OUT (out)

## LMC6494B_NSC
designator U?
Low Power Quad Operational Amplifier; 封装库来自淘宝卖家ID：黄晶宝石: 唯一出售店铺网址https://shop463601444.taobao.com
footprint DIP-14
simulation model LMC6494B_NSC (SUBCKT)
part A pins: 1 1 OUT (out), 2 1 IN- (in), 3 1 IN+ (in), 4 VCC (power), 11 VEE (power)
part B pins: 4 VCC (power), 5 2 IN+ (in), 6 2 IN- (in), 7 2 OUT (out), 11 VEE (power)
part C pins: 4 VCC (power), 8 3 OUT (out), 9 3 IN- (in), 10 3 IN+ (in), 11 VEE (power)
part D pins: 4 VCC (power), 11 VEE (power), 12 4 IN+ (in), 13 4 IN- (in), 14 4 OUT (out)

## LMC6572A_NSC
designator U?
Fast Settling Dual Operational Amplifier; 封装库来自淘宝卖家ID：黄晶宝石: 唯一出售店铺网址https://shop463601444.taobao.com
footprint DIP-8
simulation model LMC6572A_NSC (SUBCKT)
part A pins: 1 OUT1 (out), 2 IN1- (in), 3 IN1+ (in), 4 V- (power), 8 V+ (power)
part B pins: 4 V- (power), 5 IN2+ (in), 6 IN2- (in), 7 OUT2 (out), 8 V+ (power)

## LMC6572B_NSC
designator U?
Fast Settling Dual Operational Amplifier; 封装库来自淘宝卖家ID：黄晶宝石: 唯一出售店铺网址https://shop463601444.taobao.com
footprint DIP-8
simulation model LMC6572B_NSC (SUBCKT)
part A pins: 1 OUT1 (out), 2 IN1- (in), 3 IN1+ (in), 4 V- (power), 8 V+ (power)
part B pins: 4 V- (power), 5 IN2+ (in), 6 IN2- (in), 7 OUT2 (out), 8 V+ (power)

## LMC6574A_NSC
designator U?
Low Power Quad Operational Amplifier; 封装库来自淘宝卖家ID：黄晶宝石: 唯一出售店铺网址https://shop463601444.taobao.com
footprint DIP-14
simulation model LMC6574A_NSC (SUBCKT)
part A pins: 1 1 OUT (out), 2 1 IN- (in), 3 1 IN+ (in), 4 VCC (power), 11 VEE (power)
part B pins: 4 VCC (power), 5 2 IN+ (in), 6 2 IN- (in), 7 2 OUT (out), 11 VEE (power)
part C pins: 4 VCC (power), 8 3 OUT (out), 9 3 IN- (in), 10 3 IN+ (in), 11 VEE (power)
part D pins: 4 VCC (power), 11 VEE (power), 12 4 IN+ (in), 13 4 IN- (in), 14 4 OUT (out)

## LMC6574B_NSC
designator U?
Low Power Quad Operational Amplifier; 封装库来自淘宝卖家ID：黄晶宝石: 唯一出售店铺网址https://shop463601444.taobao.com
footprint DIP-14
simulation model LMC6574B_NSC (SUBCKT)
part A pins: 1 1 OUT (out), 2 1 IN- (in), 3 1 IN+ (in), 4 VCC (power), 11 VEE (power)
part B pins: 4 VCC (power), 5 2 IN+ (in), 6 2 IN- (in), 7 2 OUT (out), 11 VEE (power)
part C pins: 4 VCC (power), 8 3 OUT (out), 9 3 IN- (in), 10 3 IN+ (in), 11 VEE (power)
part D pins: 4 VCC (power), 11 VEE (power), 12 4 IN+ (in), 13 4 IN- (in), 14 4 OUT (out)

## LMC6582A_NSC
designator U?
CMOS Dual Rail-to-Rail Input & Output Operational Amplifier; 封装库来自淘宝卖家ID：黄晶宝石: 唯一出售店铺网址https://shop463601444.taobao.com
footprint DIP-8
simulation model LMC6582A_NSC (SUBCKT)
part A pins: 1 OUT1 (out), 2 IN-1 (in), 3 IN+1 (in), 4 GND (power), 8 VDD (power)
part B pins: 4 GND (power), 5 IN+2 (in), 6 IN-2 (in), 7 OUT2 (out), 8 VDD (power)

## LMC6582B_NSC
designator U?
CMOS Dual Rail-to-Rail Input & Output Operational Amplifier; 封装库来自淘宝卖家ID：黄晶宝石: 唯一出售店铺网址https://shop463601444.taobao.com
footprint DIP-8
simulation model LMC6582B_NSC (SUBCKT)
part A pins: 1 OUT1 (out), 2 IN-1 (in), 3 IN+1 (in), 4 GND (power), 8 VDD (power)
part B pins: 4 GND (power), 5 IN+2 (in), 6 IN-2 (in), 7 OUT2 (out), 8 VDD (power)

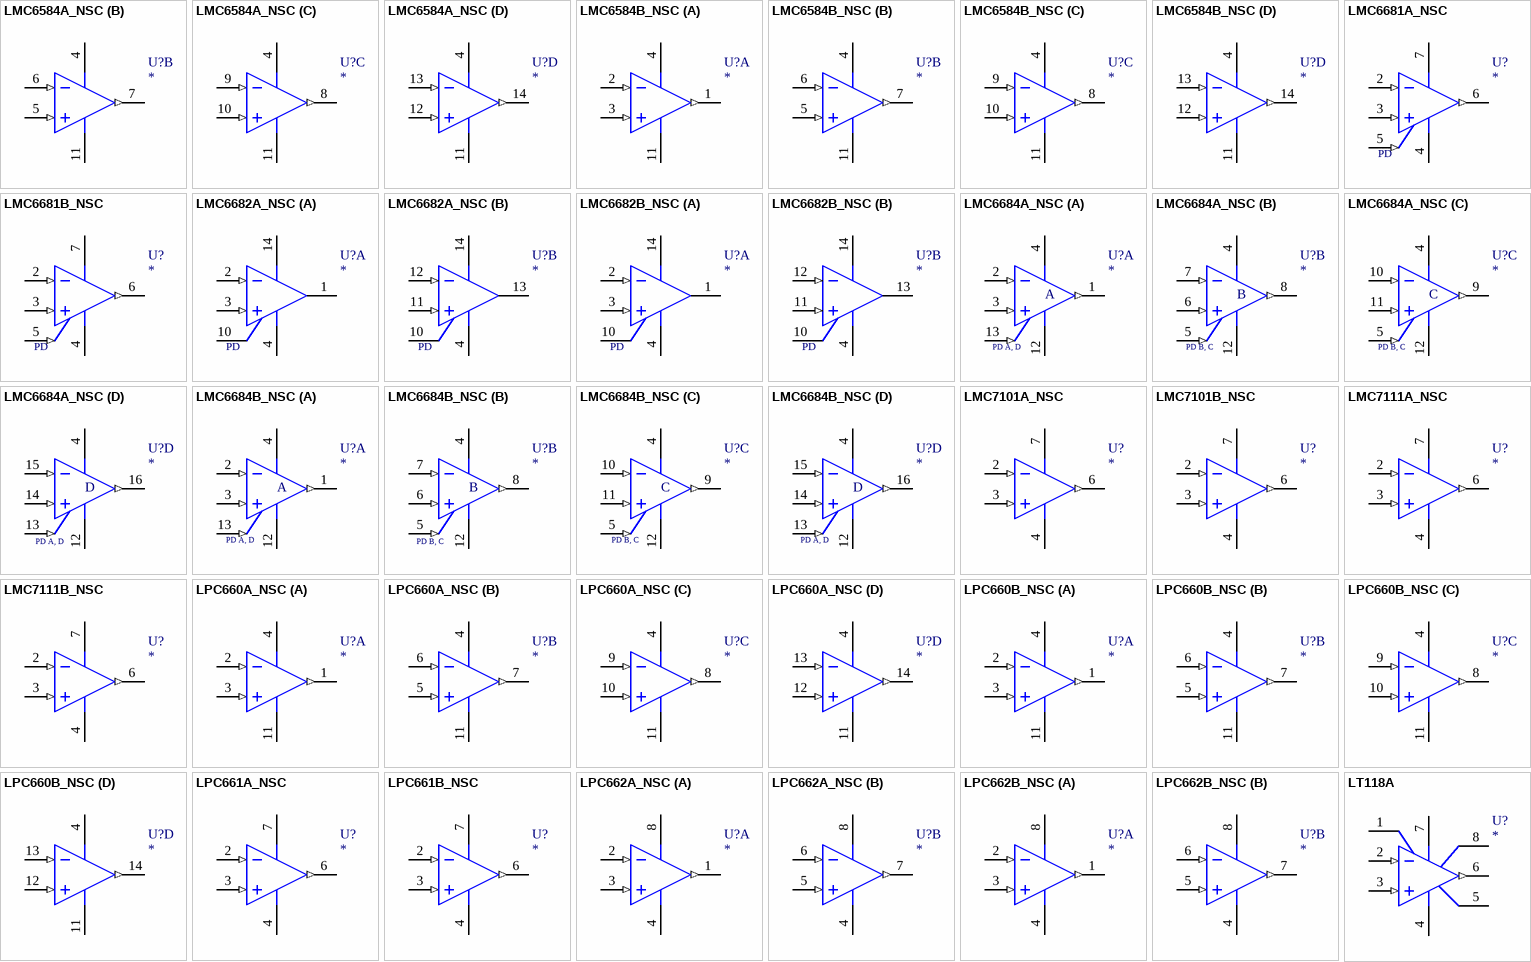
[diagram p10: symbols LMC6584A_NSC to LT118A]

## LMC6584A_NSC
designator U?
Low Power Quad Operational Amplifier; 封装库来自淘宝卖家ID：黄晶宝石: 唯一出售店铺网址https://shop463601444.taobao.com
footprint SOP14
simulation model LMC6584A_NSC (SUBCKT)
part A pins: 1 1 OUT (out), 2 1 IN- (in), 3 1 IN+ (in), 4 VCC (power), 11 VEE (power)
part B pins: 4 VCC (power), 5 2 IN+ (in), 6 2 IN- (in), 7 2 OUT (out), 11 VEE (power)
part C pins: 4 VCC (power), 8 3 OUT (out), 9 3 IN- (in), 10 3 IN+ (in), 11 VEE (power)
part D pins: 4 VCC (power), 11 VEE (power), 12 4 IN+ (in), 13 4 IN- (in), 14 4 OUT (out)

## LMC6584B_NSC
designator U?
Low Power Quad Operational Amplifier; 封装库来自淘宝卖家ID：黄晶宝石: 唯一出售店铺网址https://shop463601444.taobao.com
footprint SOP14
simulation model LMC6584B_NSC (SUBCKT)
part A pins: 1 1 OUT (out), 2 1 IN- (in), 3 1 IN+ (in), 4 VCC (power), 11 VEE (power)
part B pins: 4 VCC (power), 5 2 IN+ (in), 6 2 IN- (in), 7 2 OUT (out), 11 VEE (power)
part C pins: 4 VCC (power), 8 3 OUT (out), 9 3 IN- (in), 10 3 IN+ (in), 11 VEE (power)
part D pins: 4 VCC (power), 11 VEE (power), 12 4 IN+ (in), 13 4 IN- (in), 14 4 OUT (out)

## LMC6681A_NSC
designator U?
Single Low Voltage, Rail-to-Rail Input & Output CMOS Amplifier with PowerDown; Text Field6: Pins 1 and 8 are N.C.; 封装库来自淘宝卖家ID：黄晶宝石: 唯一出售店铺网址https://shop463601444.taobao.com
footprint DIP-8
simulation model LMC6681A_NSC (SUBCKT)
pins: 2 -IN (in), 3 +IN (in), 4 V- (power), 5 PD (in), 6 OUT (out), 7 V+ (power)

## LMC6681B_NSC
designator U?
Single Low Voltage, Rail-to-Rail Input & Output CMOS Amplifier with PowerDown; Text Field6: Pins 1 and 8 are N.C.; 封装库来自淘宝卖家ID：黄晶宝石: 唯一出售店铺网址https://shop463601444.taobao.com
footprint DIP-8
simulation model LMC6681B_NSC (SUBCKT)
pins: 2 -IN (in), 3 +IN (in), 4 V- (power), 5 PD (in), 6 OUT (out), 7 V+ (power)

## LMC6682A_NSC
designator U?
Dual Low Voltage, Rail-to-Rail Input & Output CMOS Amplifier with PowerDown; Text Field6: Pins 5, 6, 7, 8 and 9 are N.C.; 封装库来自淘宝卖家ID：黄晶宝石: 唯一出售店铺网址https://shop463601444.taobao.com
footprint DIP-14
simulation model LMC6682A_NSC (SUBCKT)
part A pins: 1 OUTA (hiz), 2 IN A- (in), 3 IN A+ (in), 4 V- (power), 10 PD, 14 V+ (power)
part B pins: 4 V- (power), 10 PD, 11 IN B+ (in), 12 IN B- (in), 13 OUTB (hiz), 14 V+ (power)

## LMC6682B_NSC
designator U?
Dual Low Voltage, Rail-to-Rail Input & Output CMOS Amplifier with PowerDown; Text Field6: Pins 5, 6, 7, 8 and 9 are N.C.; 封装库来自淘宝卖家ID：黄晶宝石: 唯一出售店铺网址https://shop463601444.taobao.com
footprint DIP-14
simulation model LMC6682B_NSC (SUBCKT)
part A pins: 1 OUTA (hiz), 2 IN A- (in), 3 IN A+ (in), 4 V- (power), 10 PD, 14 V+ (power)
part B pins: 4 V- (power), 10 PD, 11 IN B+ (in), 12 IN B- (in), 13 OUTB (hiz), 14 V+ (power)

## LMC6684A_NSC
designator U?
Quad Low Voltage, Rail-to-Rail Input and Output CMOS Amplifier with PowerDown; 封装库来自淘宝卖家ID：黄晶宝石: 唯一出售店铺网址https://shop463601444.taobao.com
footprint DIP-16
simulation model LMC6684A_NSC (SUBCKT)
part A pins: 1 OUT A (out), 2 IN A- (in), 3 IN A+ (in), 4 V+ (power), 12 V- (power), 13 PDA (in)
part B pins: 4 V+ (power), 5 PDB (in), 6 IN B+ (in), 7 IN B- (in), 8 OUT B (out), 12 V- (power)
part C pins: 4 V+ (power), 5 PDB (in), 9 OUT C (out), 10 IN C- (in), 11 IN C+ (in), 12 V- (power)
part D pins: 4 V+ (power), 12 V- (power), 13 PDA (in), 14 IN D+ (in), 15 IN D- (in), 16 OUT D (out)
part A text: A; PD A, D
part B text: B; PD B, C
part C text: C; PD B, C
part D text: D; PD A, D

## LMC6684B_NSC
designator U?
Quad Low Voltage, Rail-to-Rail Input and Output CMOS Amplifier with PowerDown; 封装库来自淘宝卖家ID：黄晶宝石: 唯一出售店铺网址https://shop463601444.taobao.com
footprint DIP-16
simulation model LMC6684B_NSC (SUBCKT)
part A pins: 1 OUT A (out), 2 IN A- (in), 3 IN A+ (in), 4 V+ (power), 12 V- (power), 13 PDA (in)
part B pins: 4 V+ (power), 5 PDB (in), 6 IN B+ (in), 7 IN B- (in), 8 OUT B (out), 12 V- (power)
part C pins: 4 V+ (power), 5 PDB (in), 9 OUT C (out), 10 IN C- (in), 11 IN C+ (in), 12 V- (power)
part D pins: 4 V+ (power), 12 V- (power), 13 PDA (in), 14 IN D+ (in), 15 IN D- (in), 16 OUT D (out)
part A text: A; PD A, D
part B text: B; PD B, C
part C text: C; PD B, C
part D text: D; PD A, D

## LMC7101A_NSC
designator U?
Low Power Operational Amplifier with Rail-to-Rail Input & Output; Text Field6: Pins 1, 5 and 8 are N.C.; 封装库来自淘宝卖家ID：黄晶宝石: 唯一出售店铺网址https://shop463601444.taobao.com
footprint DIP-8
simulation model LMC7101A_NSC (SUBCKT)
pins: 2 IN- (in), 3 IN+ (in), 4 VSS- (power), 6 OUT (out), 7 VSS+ (power)

## LMC7101B_NSC
designator U?
Low Power Operational Amplifier with Rail-to-Rail Input & Output; Text Field6: Pins 1, 5 and 8 are N.C.; 封装库来自淘宝卖家ID：黄晶宝石: 唯一出售店铺网址https://shop463601444.taobao.com
footprint DIP-8
simulation model LMC7101B_NSC (SUBCKT)
pins: 2 IN- (in), 3 IN+ (in), 4 VSS- (power), 6 OUT (out), 7 VSS+ (power)

## LMC7111A_NSC
designator U?
Precision CMOS Single Micropower Operational Amplifier; Text Field6: Pins 1, 5 and 8 are N.C.; 封装库来自淘宝卖家ID：黄晶宝石: 唯一出售店铺网址https://shop463601444.taobao.com
footprint DIP-8
simulation model LMC7111A_NSC (SUBCKT)
pins: 2 IN- (in), 3 IN+ (in), 4 -VS (power), 6 OUT (out), 7 +VS (power)

## LMC7111B_NSC
designator U?
Precision CMOS Single Micropower Operational Amplifier; Text Field6: Pins 1, 5 and 8 are N.C.; 封装库来自淘宝卖家ID：黄晶宝石: 唯一出售店铺网址https://shop463601444.taobao.com
footprint DIP-8
simulation model LMC7111B_NSC (SUBCKT)
pins: 2 IN- (in), 3 IN+ (in), 4 -VS (power), 6 OUT (out), 7 +VS (power)

## LPC660A_NSC
designator U?
Low Power Quad Operational Amplifier; 封装库来自淘宝卖家ID：黄晶宝石: 唯一出售店铺网址https://shop463601444.taobao.com
footprint DIP-14
simulation model LPC660A_NSC (SUBCKT)
part A pins: 1 1 OUT (out), 2 1 IN- (in), 3 1 IN+ (in), 4 VCC (power), 11 VEE (power)
part B pins: 4 VCC (power), 5 2 IN+ (in), 6 2 IN- (in), 7 2 OUT (out), 11 VEE (power)
part C pins: 4 VCC (power), 8 3 OUT (out), 9 3 IN- (in), 10 3 IN+ (in), 11 VEE (power)
part D pins: 4 VCC (power), 11 VEE (power), 12 4 IN+ (in), 13 4 IN- (in), 14 4 OUT (out)

## LPC660B_NSC
designator U?
Low Power Quad Operational Amplifier; 封装库来自淘宝卖家ID：黄晶宝石: 唯一出售店铺网址https://shop463601444.taobao.com
footprint DIP-14
simulation model LPC660B_NSC (SUBCKT)
part A pins: 1 1 OUT (out), 2 1 IN- (in), 3 1 IN+ (in), 4 VCC (power), 11 VEE (power)
part B pins: 4 VCC (power), 5 2 IN+ (in), 6 2 IN- (in), 7 2 OUT (out), 11 VEE (power)
part C pins: 4 VCC (power), 8 3 OUT (out), 9 3 IN- (in), 10 3 IN+ (in), 11 VEE (power)
part D pins: 4 VCC (power), 11 VEE (power), 12 4 IN+ (in), 13 4 IN- (in), 14 4 OUT (out)

## LPC661A_NSC
designator U?
Low Power Operational Amplifier with Rail-to-Rail Input & Output; Text Field6: Pins 1, 5 and 8 are N.C.; 封装库来自淘宝卖家ID：黄晶宝石: 唯一出售店铺网址https://shop463601444.taobao.com
footprint DIP-8
simulation model LPC661A_NSC (SUBCKT)
pins: 2 IN- (in), 3 IN+ (in), 4 VSS- (power), 6 OUT (out), 7 VSS+ (power)

## LPC661B_NSC
designator U?
Low Power Operational Amplifier with Rail-to-Rail Input & Output; Text Field6: Pins 1, 5 and 8 are N.C.; 封装库来自淘宝卖家ID：黄晶宝石: 唯一出售店铺网址https://shop463601444.taobao.com
footprint DIP-8
simulation model LPC661B_NSC (SUBCKT)
pins: 2 IN- (in), 3 IN+ (in), 4 VSS- (power), 6 OUT (out), 7 VSS+ (power)

## LPC662A_NSC
designator U?
Fast Settling Dual Operational Amplifier; 封装库来自淘宝卖家ID：黄晶宝石: 唯一出售店铺网址https://shop463601444.taobao.com
footprint DIP-8
simulation model LPC662A_NSC (SUBCKT)
part A pins: 1 OUT1 (out), 2 IN1- (in), 3 IN1+ (in), 4 V- (power), 8 V+ (power)
part B pins: 4 V- (power), 5 IN2+ (in), 6 IN2- (in), 7 OUT2 (out), 8 V+ (power)

## LPC662B_NSC
designator U?
Fast Settling Dual Operational Amplifier; 封装库来自淘宝卖家ID：黄晶宝石: 唯一出售店铺网址https://shop463601444.taobao.com
footprint DIP-8
simulation model LPC662B_NSC (SUBCKT)
part A pins: 1 OUT1 (out), 2 IN1- (in), 3 IN1+ (in), 4 V- (power), 8 V+ (power)
part B pins: 4 V- (power), 5 IN2+ (in), 6 IN2- (in), 7 OUT2 (out), 8 V+ (power)

## LT118A
designator U?
High Speed Operational Amplifier; 封装库来自淘宝卖家ID：黄晶宝石: 唯一出售店铺网址https://shop463601444.taobao.com
simulation model LT118A (SUBCKT)
pins: 1 COMP 1, 2 -IN (in), 3 +IN (in), 4 V- (power), 5 COMP 3, 6 OUT (out), 7 V+ (power), 8 COMP 2

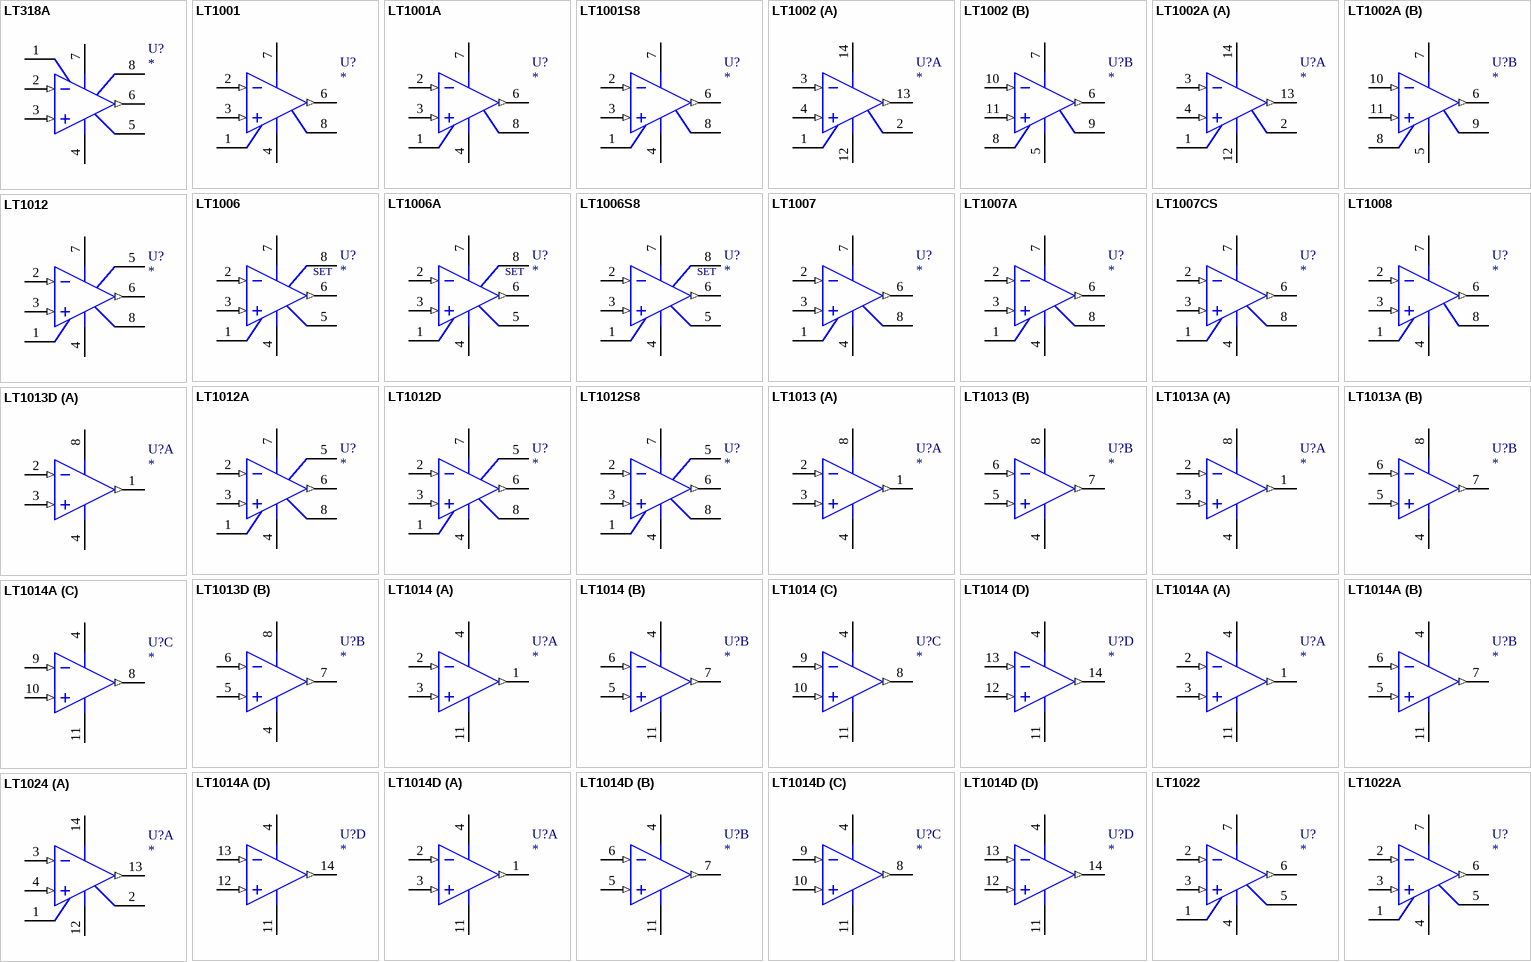
[diagram p11: symbols LT318A to LT1024]

## LT318A
designator U?
High Speed Operational Amplifier; 封装库来自淘宝卖家ID：黄晶宝石: 唯一出售店铺网址https://shop463601444.taobao.com
simulation model LT318A (SUBCKT)
pins: 1 COMP 1, 2 -IN (in), 3 +IN (in), 4 V- (power), 5 COMP 3, 6 OUT (out), 7 V+ (power), 8 COMP 2

## LT1001
designator U?
Precision Operational Amplifier; 封装库来自淘宝卖家ID：黄晶宝石: 唯一出售店铺网址https://shop463601444.taobao.com
simulation model LT1001 (SUBCKT)
pins: 1 TRIM, 2 -IN (in), 3 +IN (in), 4 V- (power), 6 OUT (out), 7 V+ (power), 8 TRIM

## LT1001A
designator U?
Precision Operational Amplifier; 封装库来自淘宝卖家ID：黄晶宝石: 唯一出售店铺网址https://shop463601444.taobao.com
simulation model LT1001A (SUBCKT)
pins: 1 TRIM, 2 -IN (in), 3 +IN (in), 4 V- (power), 6 OUT (out), 7 V+ (power), 8 TRIM

## LT1001S8
designator U?
Precision Operational Amplifier; 封装库来自淘宝卖家ID：黄晶宝石: 唯一出售店铺网址https://shop463601444.taobao.com
simulation model LT1001S8 (SUBCKT)
pins: 1 TRIM, 2 -IN (in), 3 +IN (in), 4 V- (power), 6 OUT (out), 7 V+ (power), 8 TRIM

## LT1002
designator U?
Dual, Matched Precision Operational Amplifier; 封装库来自淘宝卖家ID：黄晶宝石: 唯一出售店铺网址https://shop463601444.taobao.com
simulation model LT1002 (SUBCKT)
part A pins: 1 NULL(A), 2 NULL(A), 3 -IN(A) (in), 4 +IN(A) (in), 12 V-(A) (power), 13 OUT(A) (out), 14 V+(A) (power)
part B pins: 5 V-(B) (power), 6 OUT(B) (out), 7 V+(B) (power), 8 NULL(B), 9 NULL(B), 10 -IN(B) (in), 11 +IN(B) (in)

## LT1002A
designator U?
Dual, Matched Precision Operational Amplifier; 封装库来自淘宝卖家ID：黄晶宝石: 唯一出售店铺网址https://shop463601444.taobao.com
simulation model LT1002A (SUBCKT)
part A pins: 1 NULL(A), 2 NULL(A), 3 -IN(A) (in), 4 +IN(A) (in), 12 V-(A) (power), 13 OUT(A) (out), 14 V+(A) (power)
part B pins: 5 V-(B) (power), 6 OUT(B) (out), 7 V+(B) (power), 8 NULL(B), 9 NULL(B), 10 -IN(B) (in), 11 +IN(B) (in)

## LT1006
designator U?
Precision, Single Supply Operational Amplifier; 封装库来自淘宝卖家ID：黄晶宝石: 唯一出售店铺网址https://shop463601444.taobao.com
simulation model LT1006 (SUBCKT)
pins: 1 TRIM, 2 -IN (in), 3 +IN (in), 4 V- (power), 5 TRIM, 6 OUT (out), 7 V+ (power), 8 SET

## LT1006A
designator U?
Precision, Single Supply Operational Amplifier; 封装库来自淘宝卖家ID：黄晶宝石: 唯一出售店铺网址https://shop463601444.taobao.com
simulation model LT1006A (SUBCKT)
pins: 1 TRIM, 2 -IN (in), 3 +IN (in), 4 V- (power), 5 TRIM, 6 OUT (out), 7 V+ (power), 8 SET

## LT1006S8
designator U?
Precision, Single Supply Operational Amplifier; 封装库来自淘宝卖家ID：黄晶宝石: 唯一出售店铺网址https://shop463601444.taobao.com
simulation model LT1006S8 (SUBCKT)
pins: 1 TRIM, 2 -IN (in), 3 +IN (in), 4 V- (power), 5 TRIM, 6 OUT (out), 7 V+ (power), 8 SET

## LT1007
designator U?
Low Noise, High Speed Precision Operational Amplifier; 封装库来自淘宝卖家ID：黄晶宝石: 唯一出售店铺网址https://shop463601444.taobao.com
simulation model LT1007 (SUBCKT)
pins: 1 TRIM, 2 -IN (in), 3 +IN (in), 4 V- (power), 6 OUT (out), 7 V+ (power), 8 TRIM

## LT1007A
designator U?
Low Noise, High Speed Precision Operational Amplifier; 封装库来自淘宝卖家ID：黄晶宝石: 唯一出售店铺网址https://shop463601444.taobao.com
simulation model LT1007A (SUBCKT)
pins: 1 TRIM, 2 -IN (in), 3 +IN (in), 4 V- (power), 6 OUT (out), 7 V+ (power), 8 TRIM

## LT1007CS
designator U?
Low Noise, High Speed Precision Operational Amplifier; 封装库来自淘宝卖家ID：黄晶宝石: 唯一出售店铺网址https://shop463601444.taobao.com
simulation model LT1007CS (SUBCKT)
pins: 1 TRIM, 2 -IN (in), 3 +IN (in), 4 V- (power), 6 OUT (out), 7 V+ (power), 8 TRIM

## LT1008
designator U?
Picoamp Input Current, Microvolt Offset, Low Noise Op Amp; Text Field6: Pin 5 is not connected; 封装库来自淘宝卖家ID：黄晶宝石: 唯一出售店铺网址https://shop463601444.taobao.com
simulation model LT1008 (SUBCKT)
pins: 1 COMP1, 2 IN- (in), 3 IN+ (in), 4 VEE (power), 6 OUT (out), 7 VCC (power), 8 COMP2

## LT1012
designator U?
Picoamp Input Current, Microvolt Offset, Low Noise Operational Amplifier; 封装库来自淘宝卖家ID：黄晶宝石: 唯一出售店铺网址https://shop463601444.taobao.com
simulation model LT1012 (SUBCKT)
pins: 1 TRIM, 2 -IN (in), 3 +IN (in), 4 V- (power), 5 OVER COMP, 6 OUT (out), 7 V+ (power), 8 TRIM

## LT1012A
designator U?
Picoamp Input Current, Microvolt Offset, Low Noise Operational Amplifier; 封装库来自淘宝卖家ID：黄晶宝石: 唯一出售店铺网址https://shop463601444.taobao.com
simulation model LT1012A (SUBCKT)
pins: 1 TRIM, 2 -IN (in), 3 +IN (in), 4 V- (power), 5 OVER COMP, 6 OUT (out), 7 V+ (power), 8 TRIM

## LT1012D
designator U?
Picoamp Input Current, Microvolt Offset, Low Noise Operational Amplifier; 封装库来自淘宝卖家ID：黄晶宝石: 唯一出售店铺网址https://shop463601444.taobao.com
simulation model LT1012D (SUBCKT)
pins: 1 TRIM, 2 -IN (in), 3 +IN (in), 4 V- (power), 5 OVER COMP, 6 OUT (out), 7 V+ (power), 8 TRIM

## LT1012S8
designator U?
Picoamp Input Current, Microvolt Offset, Low Noise Operational Amplifier; 封装库来自淘宝卖家ID：黄晶宝石: 唯一出售店铺网址https://shop463601444.taobao.com
simulation model LT1012S8 (SUBCKT)
pins: 1 TRIM, 2 -IN (in), 3 +IN (in), 4 V- (power), 5 OVER COMP, 6 OUT (out), 7 V+ (power), 8 TRIM

## LT1013
designator U?
Dual Precision Operational Amplifier; 封装库来自淘宝卖家ID：黄晶宝石: 唯一出售店铺网址https://shop463601444.taobao.com
simulation model LT1013 (SUBCKT)
part A pins: 1 OUT A (out), 2 -IN A (in), 3 +IN A (in), 4 V- (power), 8 V+ (power)
part B pins: 4 V- (power), 5 +IN B (in), 6 -IN B (in), 7 OUT B (out), 8 V+ (power)

## LT1013A
designator U?
Dual Precision Operational Amplifier; 封装库来自淘宝卖家ID：黄晶宝石: 唯一出售店铺网址https://shop463601444.taobao.com
simulation model LT1013A (SUBCKT)
part A pins: 1 OUT A (out), 2 -IN A (in), 3 +IN A (in), 4 V- (power), 8 V+ (power)
part B pins: 4 V- (power), 5 +IN B (in), 6 -IN B (in), 7 OUT B (out), 8 V+ (power)

## LT1013D
designator U?
Dual Precision Operational Amplifier; 封装库来自淘宝卖家ID：黄晶宝石: 唯一出售店铺网址https://shop463601444.taobao.com
simulation model LT1013D (SUBCKT)
part A pins: 1 OUT A (out), 2 -IN A (in), 3 +IN A (in), 4 V- (power), 8 V+ (power)
part B pins: 4 V- (power), 5 +IN B (in), 6 -IN B (in), 7 OUT B (out), 8 V+ (power)

## LT1014
designator U?
Quad Precision Operational Amplifier; 封装库来自淘宝卖家ID：黄晶宝石: 唯一出售店铺网址https://shop463601444.taobao.com
simulation model LT1014 (SUBCKT)
part A pins: 1 OUT A (out), 2 -IN A (in), 3 +IN A (in), 4 V+ (power), 11 V- (power)
part B pins: 4 V+ (power), 5 +IN B (in), 6 -IN B (in), 7 OUT B (out), 11 V- (power)
part C pins: 4 V+ (power), 8 OUT C (out), 9 -IN C (in), 10 +IN C (in), 11 V- (power)
part D pins: 4 V+ (power), 11 V- (power), 12 +IN D (in), 13 -IN D (in), 14 OUT D (out)

## LT1014A
designator U?
Quad Precision Operational Amplifier; 封装库来自淘宝卖家ID：黄晶宝石: 唯一出售店铺网址https://shop463601444.taobao.com
simulation model LT1014A (SUBCKT)
part A pins: 1 OUT A (out), 2 -IN A (in), 3 +IN A (in), 4 V+ (power), 11 V- (power)
part B pins: 4 V+ (power), 5 +IN B (in), 6 -IN B (in), 7 OUT B (out), 11 V- (power)
part C pins: 4 V+ (power), 8 OUT C (out), 9 -IN C (in), 10 +IN C (in), 11 V- (power)
part D pins: 4 V+ (power), 11 V- (power), 12 +IN D (in), 13 -IN D (in), 14 OUT D (out)

## LT1014D
designator U?
Quad Precision Operational Amplifier; 封装库来自淘宝卖家ID：黄晶宝石: 唯一出售店铺网址https://shop463601444.taobao.com
simulation model LT1014D (SUBCKT)
part A pins: 1 OUT A (out), 2 -IN A (in), 3 +IN A (in), 4 V+ (power), 11 V- (power)
part B pins: 4 V+ (power), 5 +IN B (in), 6 -IN B (in), 7 OUT B (out), 11 V- (power)
part C pins: 4 V+ (power), 8 OUT C (out), 9 -IN C (in), 10 +IN C (in), 11 V- (power)
part D pins: 4 V+ (power), 11 V- (power), 12 +IN D (in), 13 -IN D (in), 14 OUT D (out)

## LT1022
designator U?
High Speed, Precision JFET Input Operational Amplifier; 封装库来自淘宝卖家ID：黄晶宝石: 唯一出售店铺网址https://shop463601444.taobao.com
simulation model LT1022 (SUBCKT)
pins: 1 BAL, 2 -IN (in), 3 +IN (in), 4 V- (power), 5 BAL, 6 OUT (out), 7 V+ (power)

## LT1022A
designator U?
High Speed, Precision JFET Input Operational Amplifier; 封装库来自淘宝卖家ID：黄晶宝石: 唯一出售店铺网址https://shop463601444.taobao.com
simulation model LT1022A (SUBCKT)
pins: 1 BAL, 2 -IN (in), 3 +IN (in), 4 V- (power), 5 BAL, 6 OUT (out), 7 V+ (power)

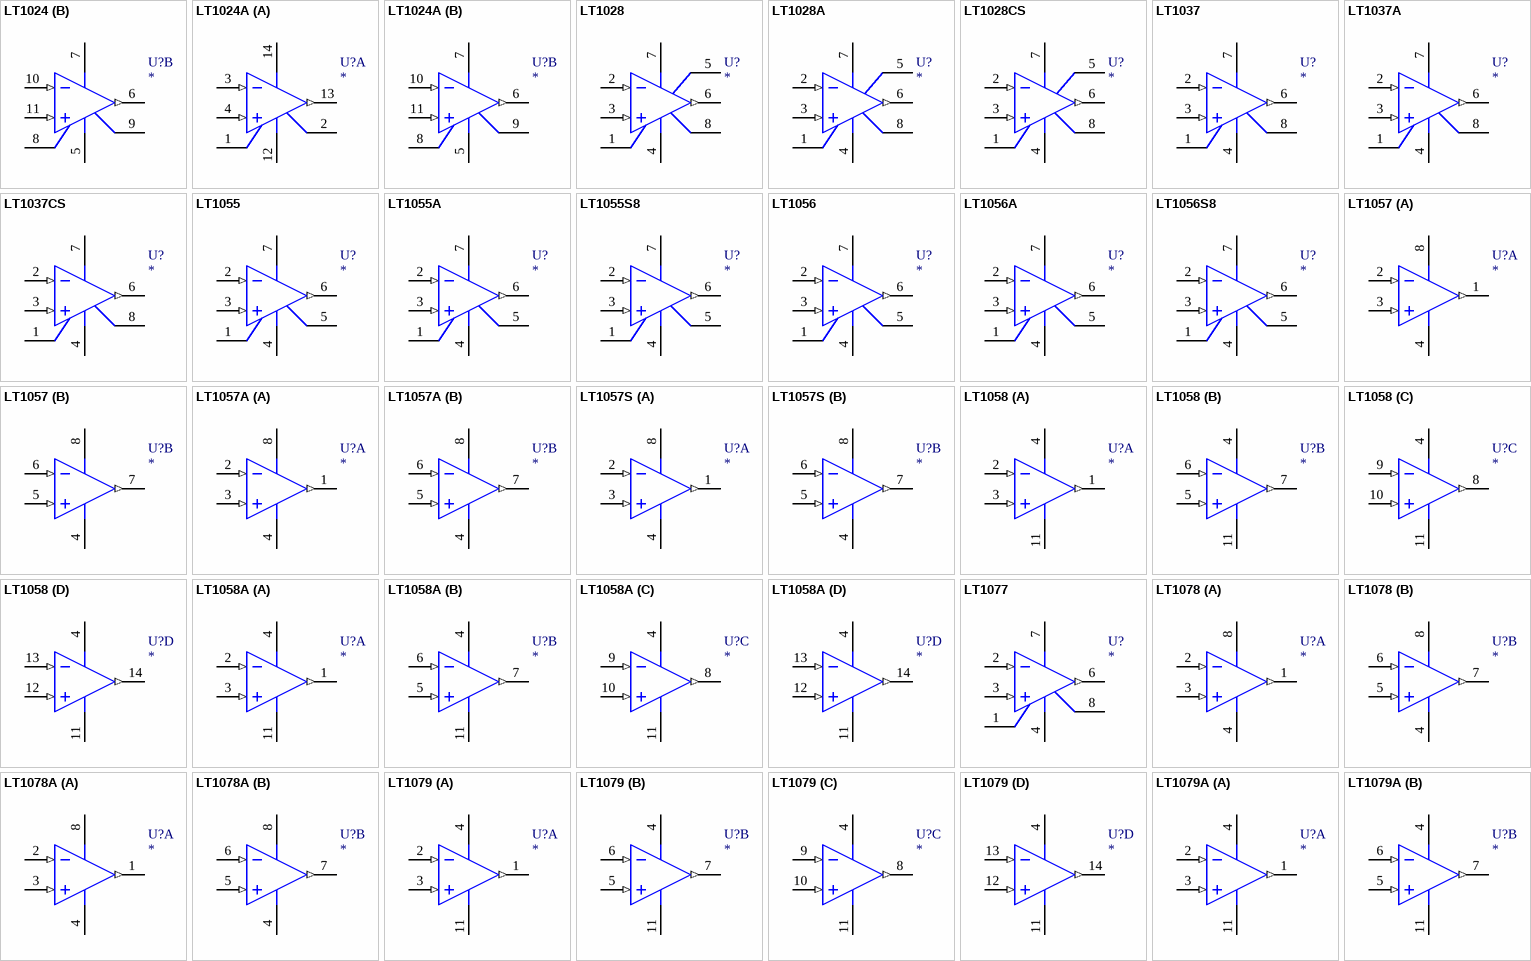
[diagram p12: symbols LT1024 to LT1079A]

## LT1024
designator U?
Dual, Matched Picoampere, Microvolt Input, Low Noise Operational Amplifier; 封装库来自淘宝卖家ID：黄晶宝石: 唯一出售店铺网址https://shop463601444.taobao.com
simulation model LT1024 (SUBCKT)
part A pins: 1 NULL(A), 2 NULL(A), 3 -IN(A) (in), 4 +IN(A) (in), 12 V-(A) (power), 13 OUT(A) (out), 14 V+(A) (power)
part B pins: 5 V-(B) (power), 6 OUT(B) (out), 7 V+(B) (power), 8 NULL(B), 9 NULL(B), 10 -IN(B) (in), 11 +IN(B) (in)

## LT1024A
designator U?
Dual, Matched Picoampere, Microvolt Input, Low Noise Operational Amplifier; 封装库来自淘宝卖家ID：黄晶宝石: 唯一出售店铺网址https://shop463601444.taobao.com
simulation model LT1024A (SUBCKT)
part A pins: 1 NULL(A), 2 NULL(A), 3 -IN(A) (in), 4 +IN(A) (in), 12 V-(A) (power), 13 OUT(A) (out), 14 V+(A) (power)
part B pins: 5 V-(B) (power), 6 OUT(B) (out), 7 V+(B) (power), 8 NULL(B), 9 NULL(B), 10 -IN(B) (in), 11 +IN(B) (in)

## LT1028
designator U?
Ultra-Low Noise Precision High Speed Operational Amplifier; 封装库来自淘宝卖家ID：黄晶宝石: 唯一出售店铺网址https://shop463601444.taobao.com
simulation model LT1028 (SUBCKT)
pins: 1 TRIM, 2 -IN (in), 3 +IN (in), 4 V- (power), 5 OVER COMP, 6 OUT (out), 7 V+ (power), 8 TRIM

## LT1028A
designator U?
Ultra-Low Noise Precision High Speed Operational Amplifier; 封装库来自淘宝卖家ID：黄晶宝石: 唯一出售店铺网址https://shop463601444.taobao.com
simulation model LT1028A (SUBCKT)
pins: 1 TRIM, 2 -IN (in), 3 +IN (in), 4 V- (power), 5 OVER COMP, 6 OUT (out), 7 V+ (power), 8 TRIM

## LT1028CS
designator U?
Ultra-Low Noise Precision High Speed Operational Amplifier; 封装库来自淘宝卖家ID：黄晶宝石: 唯一出售店铺网址https://shop463601444.taobao.com
simulation model LT1028CS (SUBCKT)
pins: 1 TRIM, 2 -IN (in), 3 +IN (in), 4 V- (power), 5 OVER COMP, 6 OUT (out), 7 V+ (power), 8 TRIM

## LT1037
designator U?
Low Noise, High Speed Precision Operational Amplifier; 封装库来自淘宝卖家ID：黄晶宝石: 唯一出售店铺网址https://shop463601444.taobao.com
simulation model LT1037 (SUBCKT)
pins: 1 TRIM, 2 -IN (in), 3 +IN (in), 4 V- (power), 6 OUT (out), 7 V+ (power), 8 TRIM

## LT1037A
designator U?
Low Noise, High Speed Precision Operational Amplifier; 封装库来自淘宝卖家ID：黄晶宝石: 唯一出售店铺网址https://shop463601444.taobao.com
simulation model LT1037A (SUBCKT)
pins: 1 TRIM, 2 -IN (in), 3 +IN (in), 4 V- (power), 6 OUT (out), 7 V+ (power), 8 TRIM

## LT1037CS
designator U?
Low Noise, High Speed Precision Operational Amplifier; 封装库来自淘宝卖家ID：黄晶宝石: 唯一出售店铺网址https://shop463601444.taobao.com
simulation model LT1037CS (SUBCKT)
pins: 1 TRIM, 2 -IN (in), 3 +IN (in), 4 V- (power), 6 OUT (out), 7 V+ (power), 8 TRIM

## LT1055
designator U?
Precision, High Speed, JFET Input Operational Amplifier; 封装库来自淘宝卖家ID：黄晶宝石: 唯一出售店铺网址https://shop463601444.taobao.com
simulation model LT1055 (SUBCKT)
pins: 1 BAL, 2 -IN (in), 3 +IN (in), 4 V- (power), 5 BAL, 6 OUT (out), 7 V+ (power)

## LT1055A
designator U?
Precision, High Speed, JFET Input Operational Amplifier; 封装库来自淘宝卖家ID：黄晶宝石: 唯一出售店铺网址https://shop463601444.taobao.com
simulation model LT1055A (SUBCKT)
pins: 1 BAL, 2 -IN (in), 3 +IN (in), 4 V- (power), 5 BAL, 6 OUT (out), 7 V+ (power)

## LT1055S8
designator U?
Precision, High Speed, JFET Input Operational Amplifier; 封装库来自淘宝卖家ID：黄晶宝石: 唯一出售店铺网址https://shop463601444.taobao.com
simulation model LT1055S8 (SUBCKT)
pins: 1 BAL, 2 -IN (in), 3 +IN (in), 4 V- (power), 5 BAL, 6 OUT (out), 7 V+ (power)

## LT1056
designator U?
Precision, High Speed, JFET Input Operational Amplifier; 封装库来自淘宝卖家ID：黄晶宝石: 唯一出售店铺网址https://shop463601444.taobao.com
simulation model LT1056 (SUBCKT)
pins: 1 BAL, 2 -IN (in), 3 +IN (in), 4 V- (power), 5 BAL, 6 OUT (out), 7 V+ (power)

## LT1056A
designator U?
Precision, High Speed, JFET Input Operational Amplifier; 封装库来自淘宝卖家ID：黄晶宝石: 唯一出售店铺网址https://shop463601444.taobao.com
simulation model LT1056A (SUBCKT)
pins: 1 BAL, 2 -IN (in), 3 +IN (in), 4 V- (power), 5 BAL, 6 OUT (out), 7 V+ (power)

## LT1056S8
designator U?
Precision, High Speed, JFET Input Operational Amplifier; 封装库来自淘宝卖家ID：黄晶宝石: 唯一出售店铺网址https://shop463601444.taobao.com
simulation model LT1056S8 (SUBCKT)
pins: 1 BAL, 2 -IN (in), 3 +IN (in), 4 V- (power), 5 BAL, 6 OUT (out), 7 V+ (power)

## LT1057
designator U?
Dual JFET Input Precision High Speed Operational Amplifier; 封装库来自淘宝卖家ID：黄晶宝石: 唯一出售店铺网址https://shop463601444.taobao.com
simulation model LT1057 (SUBCKT)
part A pins: 1 OUT A (out), 2 -IN A (in), 3 +IN A (in), 4 V- (power), 8 V+ (power)
part B pins: 4 V- (power), 5 +IN B (in), 6 -IN B (in), 7 OUT B (out), 8 V+ (power)

## LT1057A
designator U?
Dual JFET Input Precision High Speed Operational Amplifier; 封装库来自淘宝卖家ID：黄晶宝石: 唯一出售店铺网址https://shop463601444.taobao.com
simulation model LT1057A (SUBCKT)
part A pins: 1 OUT A (out), 2 -IN A (in), 3 +IN A (in), 4 V- (power), 8 V+ (power)
part B pins: 4 V- (power), 5 +IN B (in), 6 -IN B (in), 7 OUT B (out), 8 V+ (power)

## LT1057S
designator U?
Dual JFET Input Precision High Speed Operational Amplifier; 封装库来自淘宝卖家ID：黄晶宝石: 唯一出售店铺网址https://shop463601444.taobao.com
simulation model LT1057S (SUBCKT)
part A pins: 1 OUT A (out), 2 -IN A (in), 3 +IN A (in), 4 V- (power), 8 V+ (power)
part B pins: 4 V- (power), 5 +IN B (in), 6 -IN B (in), 7 OUT B (out), 8 V+ (power)